# Altium schematic symbol library LIBRARY_SCH.SCHLIB: 713 symbols (part 2 of 6)
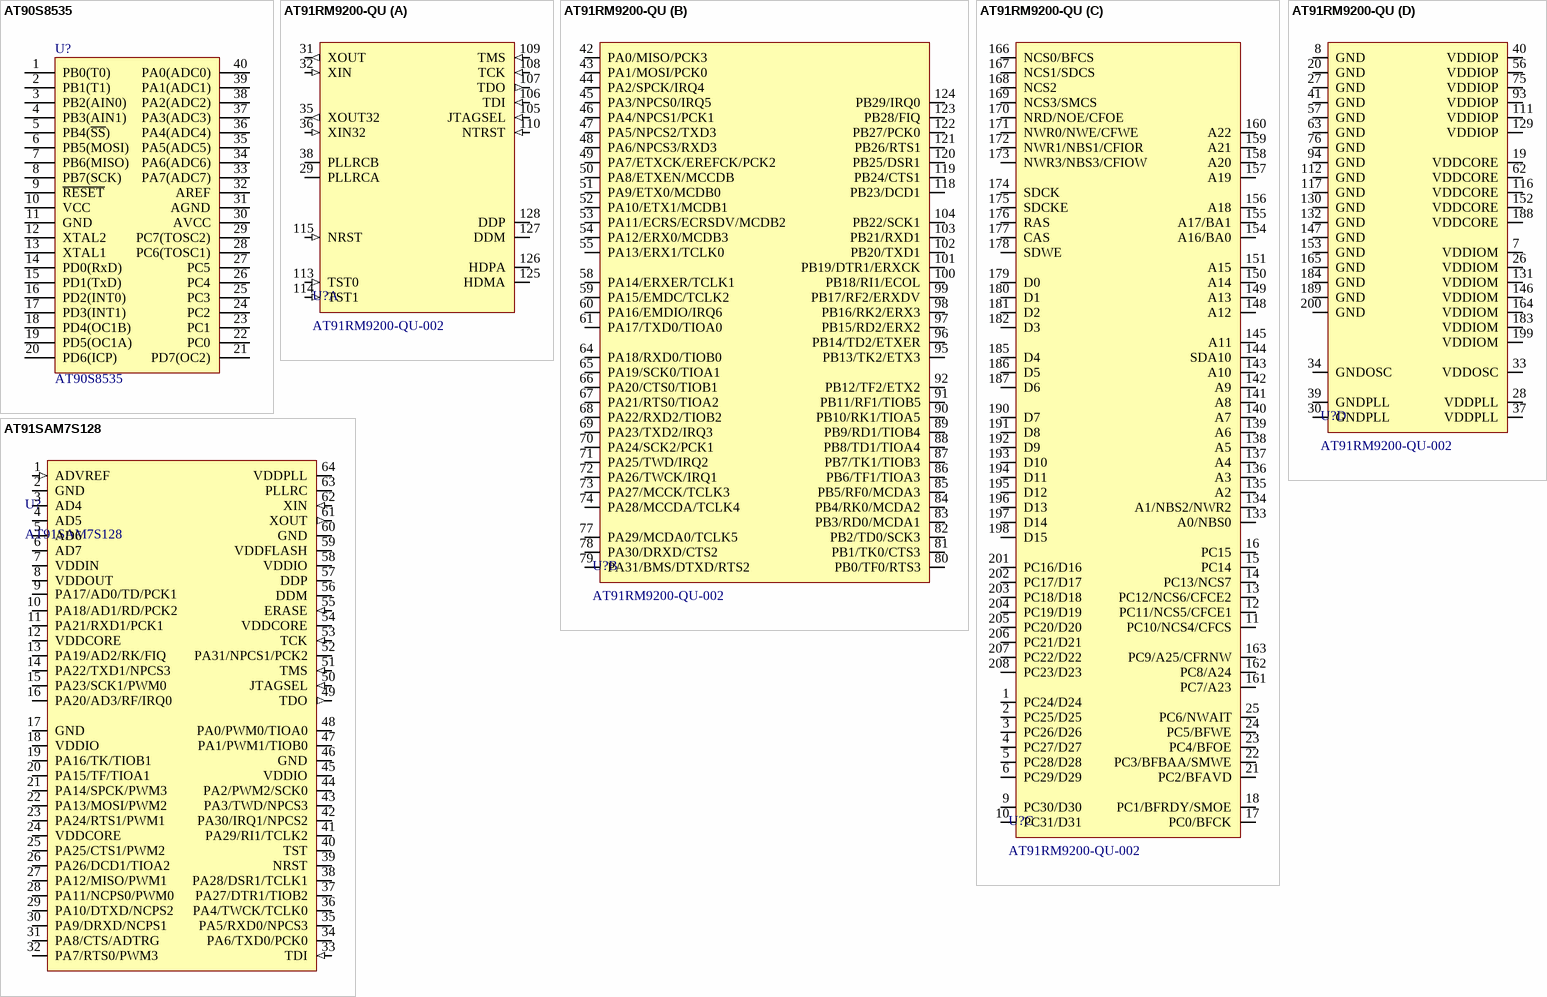
[diagram p39: symbols AT90S8535 to AT91SAM7S128]

## AT91RM9200-QU
designator U?, comment AT91RM9200-QU-002
footprint PQFP208
part A pins: 29 PLLRCA, 31 XOUT (out), 32 XIN (in), 35 XOUT32 (out), 36 XIN32 (in), 38 PLLRCB, 105 JTAGSEL (in), 106 TDI (in), 107 TDO (out), 108 TCK (in), 109 TMS (in), 110 NTRST (in), 113 TST0 (in), 114 TST1 (in), 115 NRST (in), 125 HDMA (io), 126 HDPA (io), 127 DDM (io), 128 DDP (io)
part B pins: 42 PA0/MISO/PCK3 (io), 43 PA1/MOSI/PCK0 (io), 44 PA2/SPCK/IRQ4 (io), 45 PA3/NPCS0/IRQ5 (io), 46 PA4/NPCS1/PCK1 (io), 47 PA5/NPCS2/TXD3 (io), 48 PA6/NPCS3/RXD3 (io), 49 PA7/ETXCK/EREFCK/PCK2 (io), 50 PA8/ETXEN/MCCDB (io), 51 PA9/ETX0/MCDB0 (io), 52 PA10/ETX1/MCDB1 (io), 53 PA11/ECRS/ECRSDV/MCDB2 (io), 54 PA12/ERX0/MCDB3 (io), 55 PA13/ERX1/TCLK0 (io), 58 PA14/ERXER/TCLK1 (io), 59 PA15/EMDC/TCLK2 (io), 60 PA16/EMDIO/IRQ6 (io), 61 PA17/TXD0/TIOA0 (io), 64 PA18/RXD0/TIOB0 (io), 65 PA19/SCK0/TIOA1 (io), 66 PA20/CTS0/TIOB1 (io), 67 PA21/RTS0/TIOA2 (io), 68 PA22/RXD2/TIOB2 (io), 69 PA23/TXD2/IRQ3 (io), 70 PA24/SCK2/PCK1 (io), 71 PA25/TWD/IRQ2 (io), 72 PA26/TWCK/IRQ1 (io), 73 PA27/MCCK/TCLK3 (io), 74 PA28/MCCDA/TCLK4 (io), 77 PA29/MCDA0/TCLK5 (io), 78 PA30/DRXD/CTS2 (io), 79 PA31/BMS/DTXD/RTS2 (io), 80 PB0/TF0/RTS3 (io), 81 PB1/TK0/CTS3 (io), 82 PB2/TD0/SCK3 (io), 83 PB3/RD0/MCDA1 (io), 84 PB4/RK0/MCDA2 (io), 85 PB5/RF0/MCDA3 (io), 86 PB6/TF1/TIOA3 (io), 87 PB7/TK1/TIOB3 (io), 88 PB8/TD1/TIOA4 (io), 89 PB9/RD1/TIOB4 (io), 90 PB10/RK1/TIOA5 (io), 91 PB11/RF1/TIOB5 (io), 92 PB12/TF2/ETX2 (io), 95 PB13/TK2/ETX3 (io), 96 PB14/TD2/ETXER (io), 97 PB15/RD2/ERX2 (io), 98 PB16/RK2/ERX3 (io), 99 PB17/RF2/ERXDV (io), 100 PB18/RI1/ECOL (io), 101 PB19/DTR1/ERXCK (io), 102 PB20/TXD1 (io), 103 PB21/RXD1 (io), 104 PB22/SCK1 (io), 118 PB23/DCD1 (io), 119 PB24/CTS1 (io), 120 PB25/DSR1 (io), 121 PB26/RTS1 (io), 122 PB27/PCK0 (io), 123 PB28/FIQ (io), 124 PB29/IRQ0 (io)
part C pins: 1 PC24/D24 (io), 2 PC25/D25 (io), 3 PC26/D26 (io), 4 PC27/D27 (io), 5 PC28/D28 (io), 6 PC29/D29 (io), 9 PC30/D30 (io), 10 PC31/D31 (io), 11 PC10/NCS4/CFCS (io), 12 PC11/NCS5/CFCE1 (io), 13 PC12/NCS6/CFCE2 (io), 14 PC13/NCS7 (io), 15 PC14 (io), 16 PC15 (io), 17 PC0/BFCK (io), 18 PC1/BFRDY/SMOE (io), 21 PC2/BFAVD (io), 22 PC3/BFBAA/SMWE (io), 23 PC4/BFOE (io), 24 PC5/BFWE (io), 25 PC6/NWAIT (io), 133 A0/NBS0 (io), 134 A1/NBS2/NWR2 (io), 135 A2 (io), 136 A3 (io), 137 A4 (io), 138 A5 (io), 139 A6 (io), 140 A7 (io), 141 A8 (io), 142 A9 (io), 143 A10 (io), 144 SDA10 (io), 145 A11 (io), 148 A12 (io), 149 A13 (io), 150 A14 (io), 151 A15 (io), 154 A16/BA0 (io), 155 A17/BA1 (io), 156 A18 (io), 157 A19 (io), 158 A20 (io), 159 A21 (io), 160 A22 (io), 161 PC7/A23 (io), 162 PC8/A24 (io), 163 PC9/A25/CFRNW (io), 166 NCS0/BFCS (io), 167 NCS1/SDCS (io), 168 NCS2 (io), 169 NCS3/SMCS (io), 170 NRD/NOE/CFOE (io), 171 NWR0/NWE/CFWE (io), 172 NWR1/NBS1/CFIOR (io), 173 NWR3/NBS3/CFIOW (io), 174 SDCK (io), 175 SDCKE (io), 176 RAS (io), 177 CAS (io), 178 SDWE (io), 179 D0 (io), 180 D1 (io), 181 D2 (io), 182 D3 (io), 185 D4 (io), 186 D5 (io), 187 D6 (io), 190 D7 (io), 191 D8 (io), 192 D9 (io), 193 D10 (io), 194 D11 (io), 195 D12 (io), 196 D13 (io), 197 D14 (io), 198 D15 (io), 201 PC16/D16 (io), 202 PC17/D17 (io), 203 PC18/D18 (io), 204 PC19/D19 (io), 205 PC20/D20 (io), 206 PC21/D21 (io), 207 PC22/D22 (io), 208 PC23/D23 (io)
part D pins: 7 VDDIOM (power), 8 GND (power), 19 VDDCORE (power), 20 GND (power), 26 VDDIOM (power), 27 GND (power), 28 VDDPLL (power), 30 GNDPLL (power), 33 VDDOSC (power), 34 GNDOSC (power), 37 VDDPLL (power), 39 GNDPLL (power), 40 VDDIOP (power), 41 GND (power), 56 VDDIOP (power), 57 GND (power), 62 VDDCORE (power), 63 GND (power), 75 VDDIOP (power), 76 GND (power), 93 VDDIOP (power), 94 GND (power), 111 VDDIOP (power), 112 GND (power), 116 VDDCORE (power), 117 GND (power), 129 VDDIOP (power), 130 GND (power), 131 VDDIOM (power), 132 GND (power), 146 VDDIOM (power), 147 GND (power), 152 VDDCORE (power), 153 GND (power), 164 VDDIOM (power), 165 GND (power), 183 VDDIOM (power), 184 GND (power), 188 VDDCORE (power), 189 GND (power), 199 VDDIOM (power), 200 GND (power)

## AT91SAM7S128
designator U?
Atmel ARM7TDMI processor
footprint lqfp-64
pins: 1 ADVREF (in), 2 GND (power), 3 AD4 (io), 4 AD5 (io), 5 AD6 (io), 6 AD7 (io), 7 VDDIN (power), 8 VDDOUT (power), 9 PA17/AD0/TD/PCK1 (io), 10 PA18/AD1/RD/PCK2 (io), 11 PA21/RXD1/PCK1 (io), 12 VDDCORE (power), 13 PA19/AD2/RK/FIQ (io), 14 PA22/TXD1/NPCS3 (io), 15 PA23/SCK1/PWM0 (io), 16 PA20/AD3/RF/IRQ0 (io), 17 GND (power), 18 VDDIO (power), 19 PA16/TK/TIOB1 (io), 20 PA15/TF/TIOA1 (io), 21 PA14/SPCK/PWM3 (io), 22 PA13/MOSI/PWM2 (io), 23 PA24/RTS1/PWM1 (io), 24 VDDCORE (power), 25 PA25/CTS1/PWM2 (io), 26 PA26/DCD1/TIOA2 (io), 27 PA12/MISO/PWM1 (io), 28 PA11/NCPS0/PWM0 (io), 29 PA10/DTXD/NCPS2 (io), 30 PA9/DRXD/NCPS1 (io), 31 PA8/CTS/ADTRG (io), 32 PA7/RTS0/PWM3 (io), 33 TDI (in), 34 PA6/TXD0/PCK0 (io), 35 PA5/RXD0/NPCS3 (io), 36 PA4/TWCK/TCLK0 (io), 37 PA27/DTR1/TIOB2 (io), 38 PA28/DSR1/TCLK1 (io), 39 NRST (oc), 40 TST (power), 41 PA29/RI1/TCLK2 (io), 42 PA30/IRQ1/NPCS2 (io), 43 PA3/TWD/NPCS3 (io), 44 PA2/PWM2/SCK0 (io), 45 VDDIO (power), 46 GND (power), 47 PA1/PWM1/TIOB0 (io), 48 PA0/PWM0/TIOA0 (io), 49 TDO (out), 50 JTAGSEL (in), 51 TMS (in), 52 PA31/NPCS1/PCK2 (io), 53 TCK (in), 54 VDDCORE (power), 55 ERASE (in), 56 DDM (io), 57 DDP (io), 58 VDDIO (power), 59 VDDFLASH (power), 60 GND (power), 61 XOUT (out), 62 XIN (in), 63 PLLRC (power), 64 VDDPLL (power)

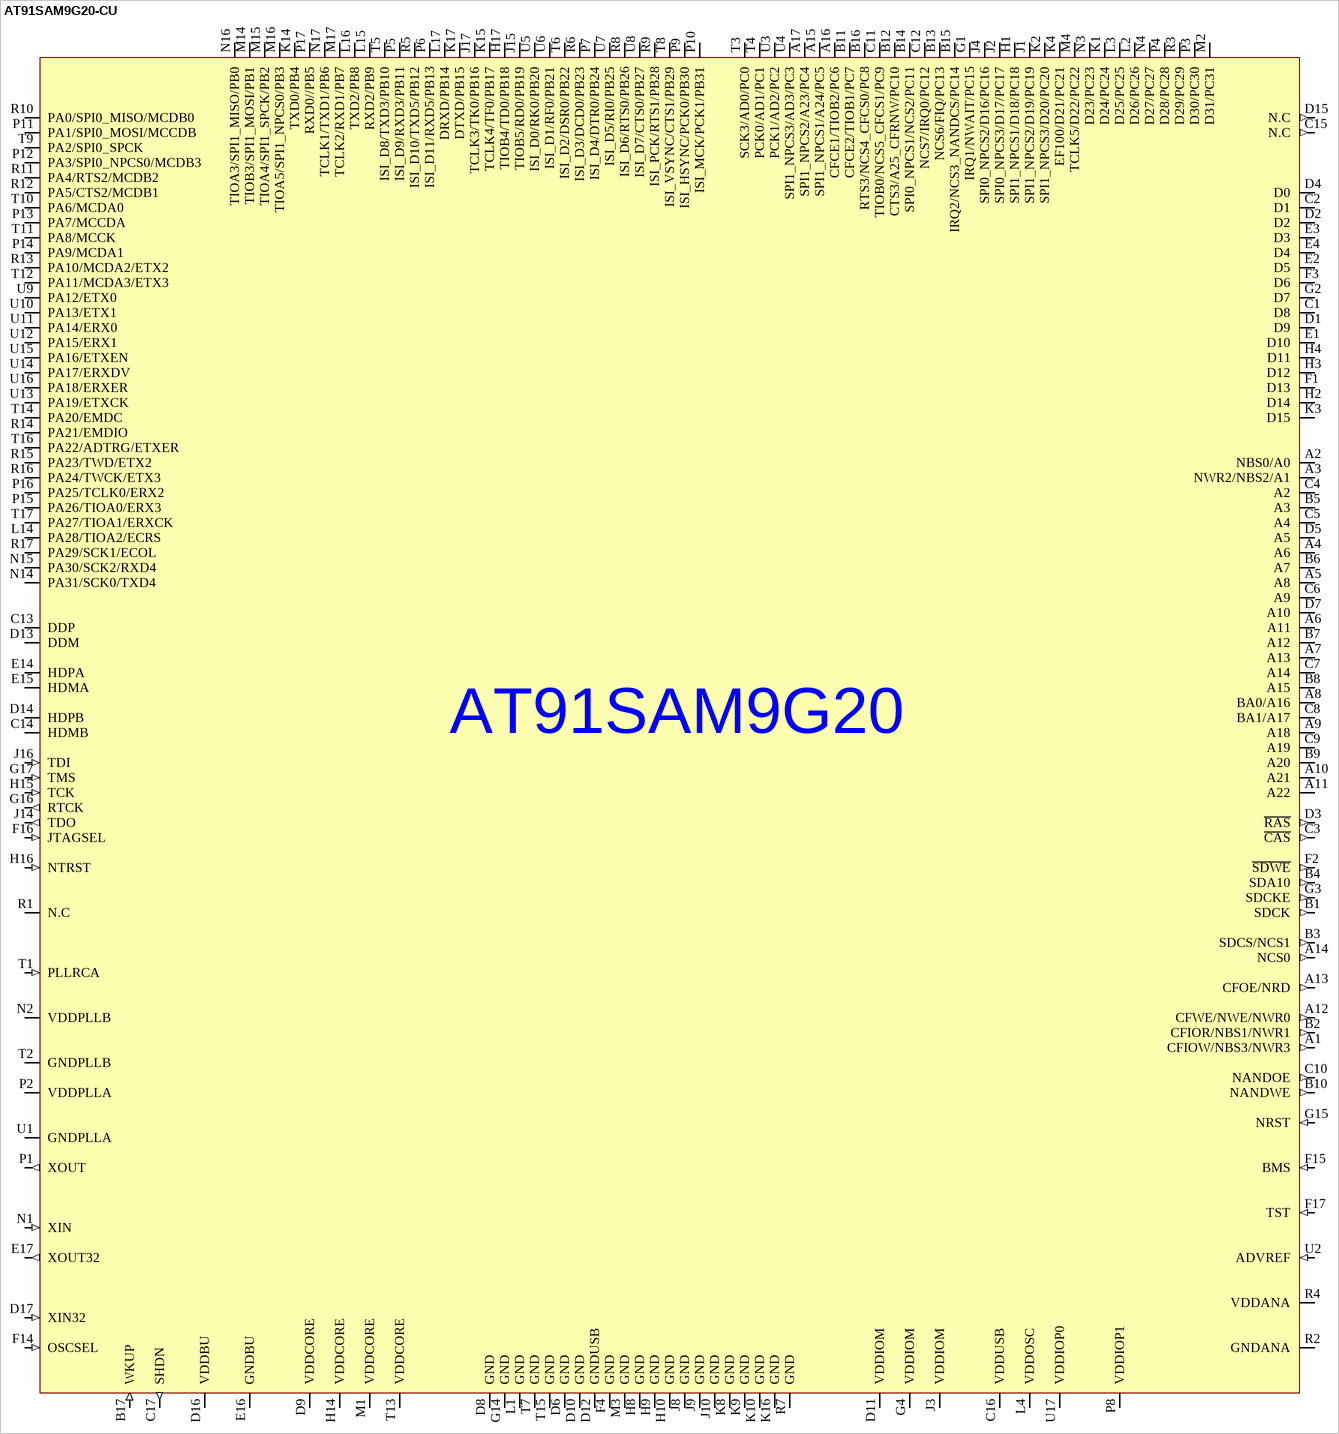
[diagram p8: symbol AT91SAM9G20-CU]

## AT91SAM9G20-CU
designator MN4  (value not drawn)
FAB: ATMEL; TEMP: -40°C à +85°C; BOI: LFBGA217 Pitch 0.8mm with BGA socket; DESIG: NADIA0; REF: AT91SAM9260-CJ; VAL: AT91SAM9260; DEV: X_S_BGA289_01; Right: 830; Bottom: 880
footprint FBGA217
pins: A1 CFIOW/NBS3/NWR3 (out), A2 NBS0/A0 (hiz), A3 NWR2/NBS2/A1 (hiz), A4 A6 (hiz), A5 A8 (hiz), A6 A11 (hiz), A7 A13 (hiz), A8 BA0/A16 (hiz), A9 A18 (hiz), A10 A21 (hiz), A11 A22 (hiz), A12 CFWE/NWE/NWR0 (out), A13 CFOE/NRD (out), A14 NCS0 (out), A15 SPI1_NPCS1/A24/PC5 (io), A16 CFCE1/TIOB2/PC6 (io), A17 SPI1_NPCS2/A23/PC4 (io), B1 SDCK (out), B2 CFIOR/NBS1/NWR1 (out), B3 SDCS/NCS1 (out), B4 SDA10 (out), B5 A3 (hiz), B6 A7 (hiz), B7 A12 (hiz), B8 A15 (hiz), B9 A20 (hiz), B10 NANDWE (out), B11 CFCE2/TIOB1/PC7 (io), B12 CTS3/A25_CFRNW/PC10 (io), B13 NCS6/FIQ/PC13 (io), B14 SPI0_NPCS1/NCS2/PC11 (io), B15 IRQ2/NCS3_NANDCS/PC14 (io), B16 RTS3/NCS4_CFCS0/PC8 (io), B17 WKUP (in), C1 D8 (io), C2 D1 (io), C3 ~{CAS} (out), C4 A2 (hiz), C5 A4 (hiz), C6 A9 (hiz), C7 A14 (hiz), C8 BA1/A17 (hiz), C9 A19 (hiz), C10 NANDOE (out), C11 TIOB0/NCS5_CFCS1/PC9 (io), C12 NCS7/IRQ0/PC12 (io), C13 DDP, C14 HDMB, C15 N.C (out), C16 VDDUSB (power), C17 SHDN (out), D1 D9 (io), D2 (io), D3 ~{RAS} (out), D4 D0 (io), D5 A5 (hiz), D6 GND (power), D7 A10 (hiz), D8 GND (power), D9 VDDCORE (power), D10 GND (power), D11 VDDIOM (power), D12 GNDUSB (power), D13 DDM, D14 HDPB, D15 N.C (out), D16 VDDBU (power), D17 XIN32 (in), E1 D10 (io), E2 D5 (io), E3 D3 (io), E4 D4 (io), E14 HDPA, E15 HDMA, E16 GNDBU (power), E17 XOUT32 (out), F1 D13 (io), F2 ~{SDWE} (out), F3 D6 (io), F4 GND (power), F14 OSCSEL (in), F15 BMS (in), F16 JTAGSEL (in), F17 TST (in), G1 IRQ1/NWAIT/PC15 (io), G2 D7 (io), G3 SDCKE (out), G4 VDDIOM (power), G14 GND (power), G15 NRST (in), G16 RTCK (out), G17 TMS (in), H1 SPI1_NPCS1/D18/PC18 (io), H2 D14 (io), H3 D12 (io), H4 D11 (io), H8 GND (power), H9 GND (power), H10 GND (power), H14 VDDCORE (power), H15 TCK (in), H16 NTRST (in), H17 TIOB4/TD0/PB18 (io), J1 SPI1_NPCS2/D19/PC19 (io), J2 SPI0_NPCS3/D17/PC17 (io), J3 VDDIOM (power), J4 SPI0_NPCS2/D16/PC16 (io), J8 GND (power), J9 GND (power), J10 GND (power), J14 TDO (out), J15 TIOB5/RD0/PB19 (io), J16 TDI (in), J17 TCLK3/TK0/PB16 (io), K1 D24/PC24 (io), K2 SPI1_NPCS3/D20/PC20 (io), K3 D15 (io), K4 EF100/D21/PC21 (io), K8 GND (power), K9 GND (power), K10 GND (power), K14 TXD0/PB4 (io), K15 TCLK4/TF0/PB17 (io), K16 GND (power), K17 DTXD/PB15 (io), L1 GND (power), L2 D26/PC26 (io), L3 D25/PC25 (io), L4 VDDOSC (power), L14 PA28/TIOA2/ECRS (io), L15 RXD2/PB9 (io), L16 TXD2/PB8 (io), L17 DRXD/PB14 (io), M1 VDDCORE (power), M2 D31/PC31 (io), M3 GND (power), M4 TCLK5/D22/PC22 (io), M14 TIOB3/SPI1_MOSI/PB1 (io), M15 TIOA4/SPI1_SPCK/PB2 (io), M16 TIOA5/SPI1_NPCS0/PB3 (io), M17 TCLK2/RXD1/PB7 (io), N1 XIN (in), N2 VDDPLLB (power), N3 D23/PC23 (io), N4 D27/PC27 (io), N14 PA31/SCK0/TXD4 (io), N15 PA30/SCK2/RXD4 (io), N16 TIOA3/SPI1_MISO/PB0 (io), N17 TCLK1/TXD1/PB6 (io), P1 XOUT (out), P2 VDDPLLA (power), P3 D30/PC30 (io), P4 D28/PC28 (io), P5 ISI_D9/RXD3/PB11 (io), P6 ISI_D11/RXD5/PB13 (io), P7 ISI_D4/DTR0/PB24 (io), P8 VDDIOP1 (power), P9 ISI_HSYNC/PCK0/PB30 (io), P10 ISI_MCK/PCK1/PB31 (io), P11 PA1/SPI0_MOSI/MCCDB (io), P12 PA3/SPI0_NPCS0/MCDB3 (io), P13 PA7/MCCDA (io), P14 PA9/MCDA1 (io), P15 PA26/TIOA0/ERX3 (io), P16 PA25/TCLK0/ERX2 (io), P17 RXD0//PB5 (io), R1 N.C, R2 GNDANA (power), R3 D29/PC29 (io), R4 VDDANA (power), R5 ISI_D10/TXD5/PB12 (io), R6 ISI_D3/DCD0/PB23 (io), R7 GND (power), R8 ISI_D6/RTS0/PB26 (io), R9 ISI_PCK/RTS1/PB28 (io), R10 PA0/SPI0_MISO/MCDB0 (io), R11 PA4/RTS2/MCDB2 (io), R12 PA5/CTS2/MCDB1 (io), R13 PA10/MCDA2/ETX2 (io), R14 PA21/EMDIO (io), R15 PA23/TWD/ETX2 (io), R16 PA24/TWCK/ETX3 (io), R17 PA29/SCK1/ECOL (io), T1 PLLRCA (in), T2 GNDPLLB (power), T3 SCK3/AD0/PC0 (io), T4 PCK0/AD1/PC1 (io), T5 ISI_D8/TXD3/PB10 (io), T6 ISI_D2/DSR0/PB22 (io), T7 GND (power), T8 ISI_VSYNC/CTS1/PB29 (io), T9 PA2/SPI0_SPCK (io), T10 PA6/MCDA0 (io), T11 PA8/MCCK (io), T12 PA11/MCDA3/ETX3 (io), T13 VDDCORE (power), T14 PA20/EMDC (io), T15 GND (power), T16 PA22/ADTRG/ETXER (io), T17 PA27/TIOA1/ERXCK (io), U1 GNDPLLA (power), U2 ADVREF (in), U3 PCK1/AD2/PC2 (io), U4 SPI1_NPCS3/AD3/PC3 (io), U5 ISI_D0/RK0/PB20 (io), U6 ISI_D1/RF0/PB21 (io), U7 ISI_D5/RI0/PB25 (io), U8 ISI_D7/CTS0/PB27 (io), U9 PA12/ETX0 (io), U10 PA13/ETX1 (io), U11 PA14/ERX0 (io), U12 PA15/ERX1 (io), U13 PA19/ETXCK (io), U14 PA17/ERXDV (io), U15 PA16/ETXEN (io), U16 PA18/ERXER (io), U17 VDDIOP0 (power)
text: AT91SAM9G20

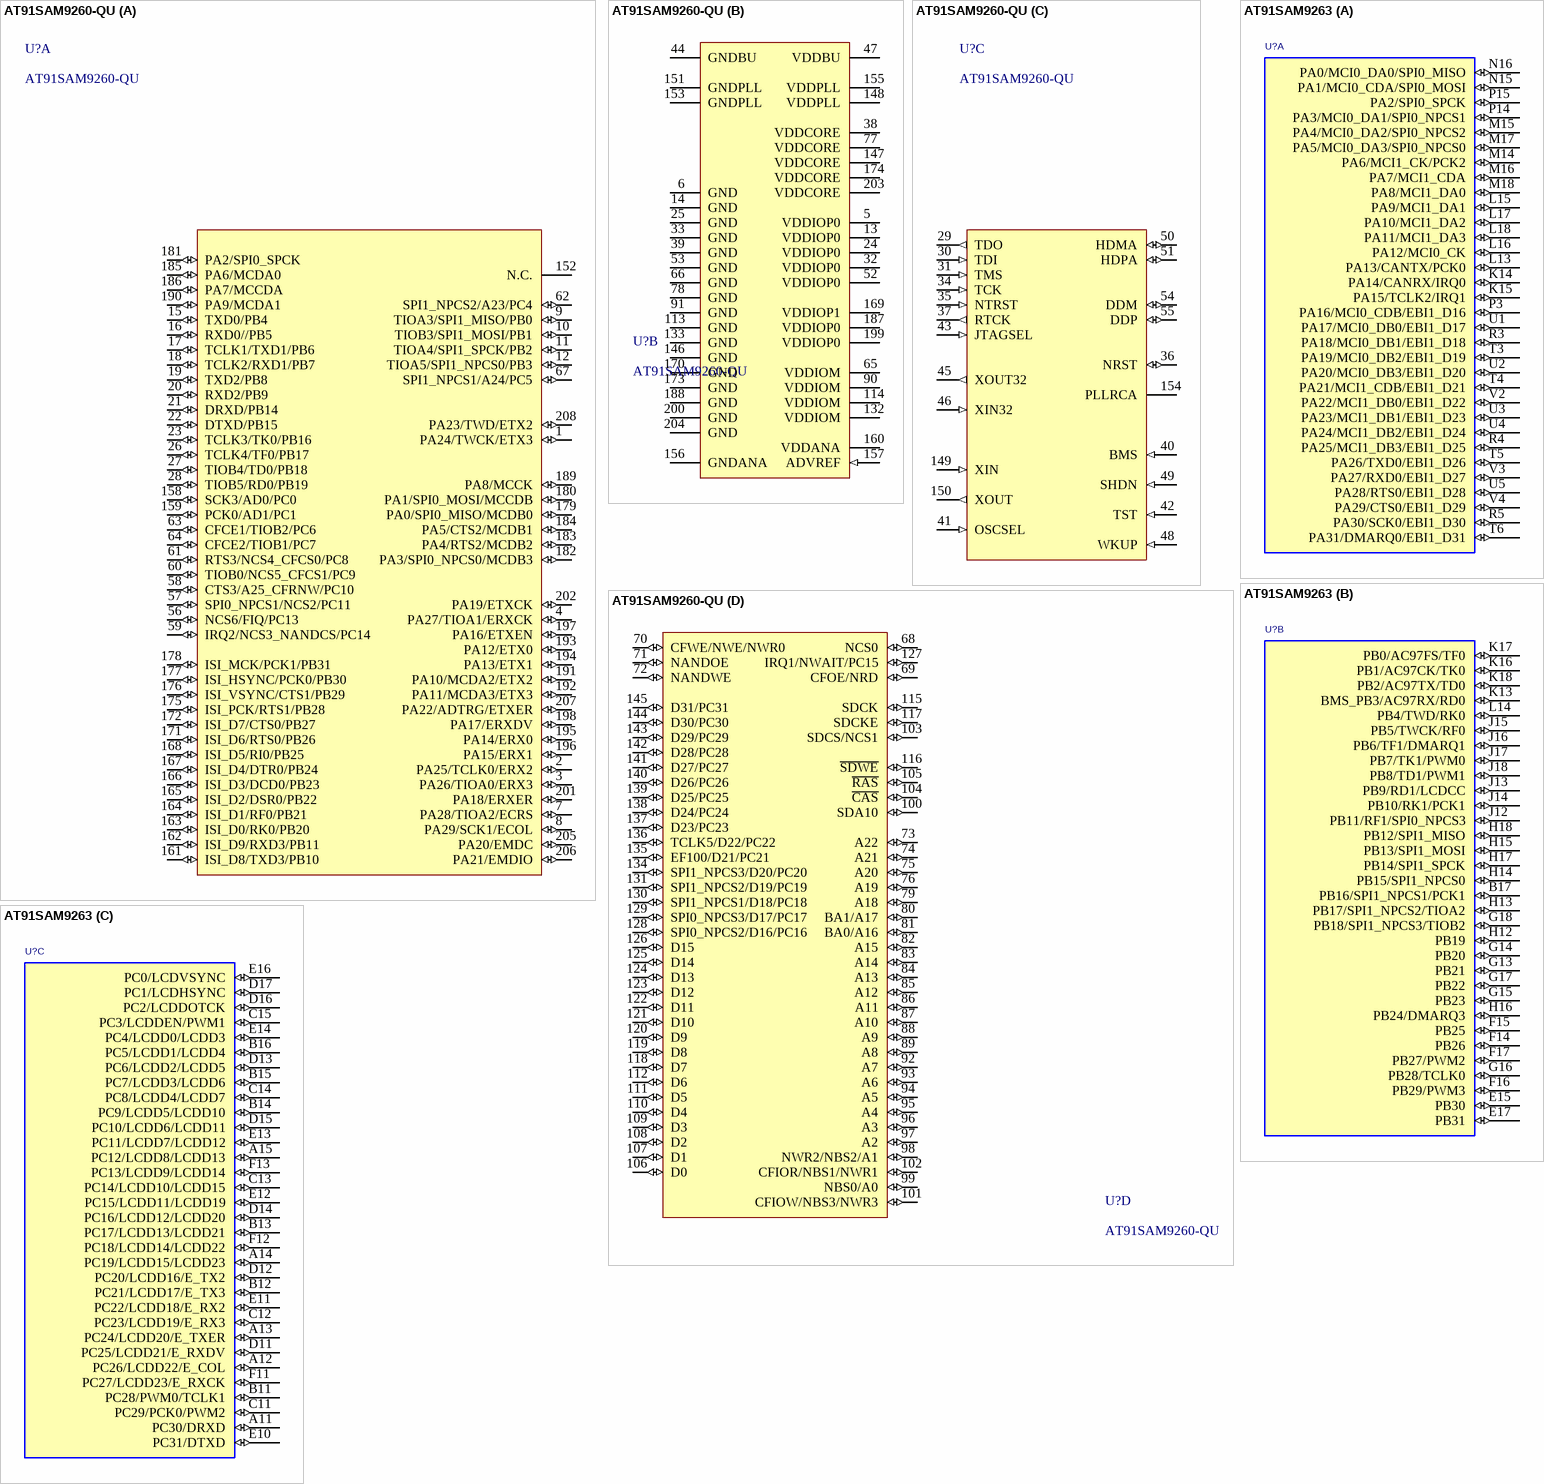
[diagram p9: symbols AT91SAM9260-QU to AT91SAM9263]

## AT91SAM9260-QU
designator U?
footprint PQFP208
part A pins: 1 PA24/TWCK/ETX3 (io), 2 PA25/TCLK0/ERX2 (io), 3 PA26/TIOA0/ERX3 (io), 4 PA27/TIOA1/ERXCK (io), 7 PA28/TIOA2/ECRS (io), 8 PA29/SCK1/ECOL (io), 9 TIOA3/SPI1_MISO/PB0 (io), 10 TIOB3/SPI1_MOSI/PB1 (io), 11 TIOA4/SPI1_SPCK/PB2 (io), 12 TIOA5/SPI1_NPCS0/PB3 (io), 15 TXD0/PB4 (io), 16 RXD0//PB5 (io), 17 TCLK1/TXD1/PB6 (io), 18 TCLK2/RXD1/PB7 (io), 19 TXD2/PB8 (io), 20 RXD2/PB9 (io), 21 DRXD/PB14 (io), 22 DTXD/PB15 (io), 23 TCLK3/TK0/PB16 (io), 26 TCLK4/TF0/PB17 (io), 27 TIOB4/TD0/PB18 (io), 28 TIOB5/RD0/PB19 (io), 56 NCS6/FIQ/PC13 (io), 57 SPI0_NPCS1/NCS2/PC11 (io), 58 CTS3/A25_CFRNW/PC10 (io), 59 IRQ2/NCS3_NANDCS/PC14 (io), 60 TIOB0/NCS5_CFCS1/PC9 (io), 61 RTS3/NCS4_CFCS0/PC8 (io), 62 SPI1_NPCS2/A23/PC4 (io), 63 CFCE1/TIOB2/PC6 (io), 64 CFCE2/TIOB1/PC7 (io), 67 SPI1_NPCS1/A24/PC5 (io), 152 N.C., 158 SCK3/AD0/PC0 (io), 159 PCK0/AD1/PC1 (io), 161 ISI_D8/TXD3/PB10 (io), 162 ISI_D9/RXD3/PB11 (io), 163 ISI_D0/RK0/PB20 (io), 164 ISI_D1/RF0/PB21 (io), 165 ISI_D2/DSR0/PB22 (io), 166 ISI_D3/DCD0/PB23 (io), 167 ISI_D4/DTR0/PB24 (io), 168 ISI_D5/RI0/PB25 (io), 171 ISI_D6/RTS0/PB26 (io), 172 ISI_D7/CTS0/PB27 (io), 175 ISI_PCK/RTS1/PB28 (io), 176 ISI_VSYNC/CTS1/PB29 (io), 177 ISI_HSYNC/PCK0/PB30 (io), 178 ISI_MCK/PCK1/PB31 (io), 179 PA0/SPI0_MISO/MCDB0 (io), 180 PA1/SPI0_MOSI/MCCDB (io), 181 PA2/SPI0_SPCK (io), 182 PA3/SPI0_NPCS0/MCDB3 (io), 183 PA4/RTS2/MCDB2 (io), 184 PA5/CTS2/MCDB1 (io), 185 PA6/MCDA0 (io), 186 PA7/MCCDA (io), 189 PA8/MCCK (io), 190 PA9/MCDA1 (io), 191 PA10/MCDA2/ETX2 (io), 192 PA11/MCDA3/ETX3 (io), 193 PA12/ETX0 (io), 194 PA13/ETX1 (io), 195 PA14/ERX0 (io), 196 PA15/ERX1 (io), 197 PA16/ETXEN (io), 198 PA17/ERXDV (io), 201 PA18/ERXER (io), 202 PA19/ETXCK (io), 205 PA20/EMDC (io), 206 PA21/EMDIO (io), 207 PA22/ADTRG/ETXER (io), 208 PA23/TWD/ETX2 (io)
part B pins: 5 VDDIOP0 (power), 6 GND (power), 13 VDDIOP0 (power), 14 GND (power), 24 VDDIOP0 (power), 25 GND (power), 32 VDDIOP0 (power), 33 GND (power), 38 VDDCORE (power), 39 GND (power), 44 GNDBU (power), 47 VDDBU (power), 52 VDDIOP0 (power), 53 GND (power), 65 VDDIOM (power), 66 GND (power), 77 VDDCORE (power), 78 GND (power), 90 VDDIOM (power), 91 GND (power), 113 GND (power), 114 VDDIOM (power), 132 VDDIOM (power), 133 GND (power), 146 GND (power), 147 VDDCORE (power), 148 VDDPLL (power), 151 GNDPLL (power), 153 GNDPLL (power), 155 VDDPLL (power), 156 GNDANA (power), 157 ADVREF (in), 160 VDDANA (power), 169 VDDIOP1 (power), 170 GND (power), 173 GND (power), 174 VDDCORE (power), 187 VDDIOP0 (power), 188 GND (power), 199 VDDIOP0 (power), 200 GND (power), 203 VDDCORE (power), 204 GND (power)
part C pins: 29 TDO (out), 30 TDI (in), 31 TMS (in), 34 TCK (in), 35 NTRST (in), 36 NRST (io), 37 RTCK (out), 40 BMS (in), 41 OSCSEL (in), 42 TST (in), 43 JTAGSEL (in), 45 XOUT32 (out), 46 XIN32 (in), 48 WKUP (in), 49 SHDN (in), 50 HDMA (io), 51 HDPA (io), 54 DDM (io), 55 DDP (io), 149 XIN (in), 150 XOUT (out), 154 PLLRCA
part D pins: 68 NCS0 (io), 69 CFOE/NRD (io), 70 CFWE/NWE/NWR0 (io), 71 NANDOE (io), 72 NANDWE (io), 73 A22 (io), 74 A21 (io), 75 A20 (io), 76 A19 (io), 79 A18 (io), 80 BA1/A17 (io), 81 BA0/A16 (io), 82 A15 (io), 83 A14 (io), 84 A13 (io), 85 A12 (io), 86 A11 (io), 87 A10 (io), 88 A9 (io), 89 A8 (io), 92 A7 (io), 93 A6 (io), 94 A5 (io), 95 A4 (io), 96 A3 (io), 97 A2 (io), 98 NWR2/NBS2/A1 (io), 99 NBS0/A0 (io), 100 SDA10 (io), 101 CFIOW/NBS3/NWR3 (io), 102 CFIOR/NBS1/NWR1 (io), 103 SDCS/NCS1 (io), 104 ~{CAS} (io), 105 ~{RAS} (io), 106 D0 (io), 107 D1 (io), 108 D2 (io), 109 D3 (io), 110 D4 (io), 111 D5 (io), 112 D6 (io), 115 SDCK (io), 116 ~{SDWE} (io), 117 SDCKE (io), 118 D7 (io), 119 D8 (io), 120 D9 (io), 121 D10 (io), 122 D11 (io), 123 D12 (io), 124 D13 (io), 125 D14 (io), 126 D15 (io), 127 IRQ1/NWAIT/PC15 (io), 128 SPI0_NPCS2/D16/PC16 (io), 129 SPI0_NPCS3/D17/PC17 (io), 130 SPI1_NPCS1/D18/PC18 (io), 131 SPI1_NPCS2/D19/PC19 (io), 134 SPI1_NPCS3/D20/PC20 (io), 135 EF100/D21/PC21 (io), 136 TCLK5/D22/PC22 (io), 137 D23/PC23 (io), 138 D24/PC24 (io), 139 D25/PC25 (io), 140 D26/PC26 (io), 141 D27/PC27 (io), 142 D28/PC28 (io), 143 D29/PC29 (io), 144 D30/PC30 (io), 145 D31/PC31 (io)

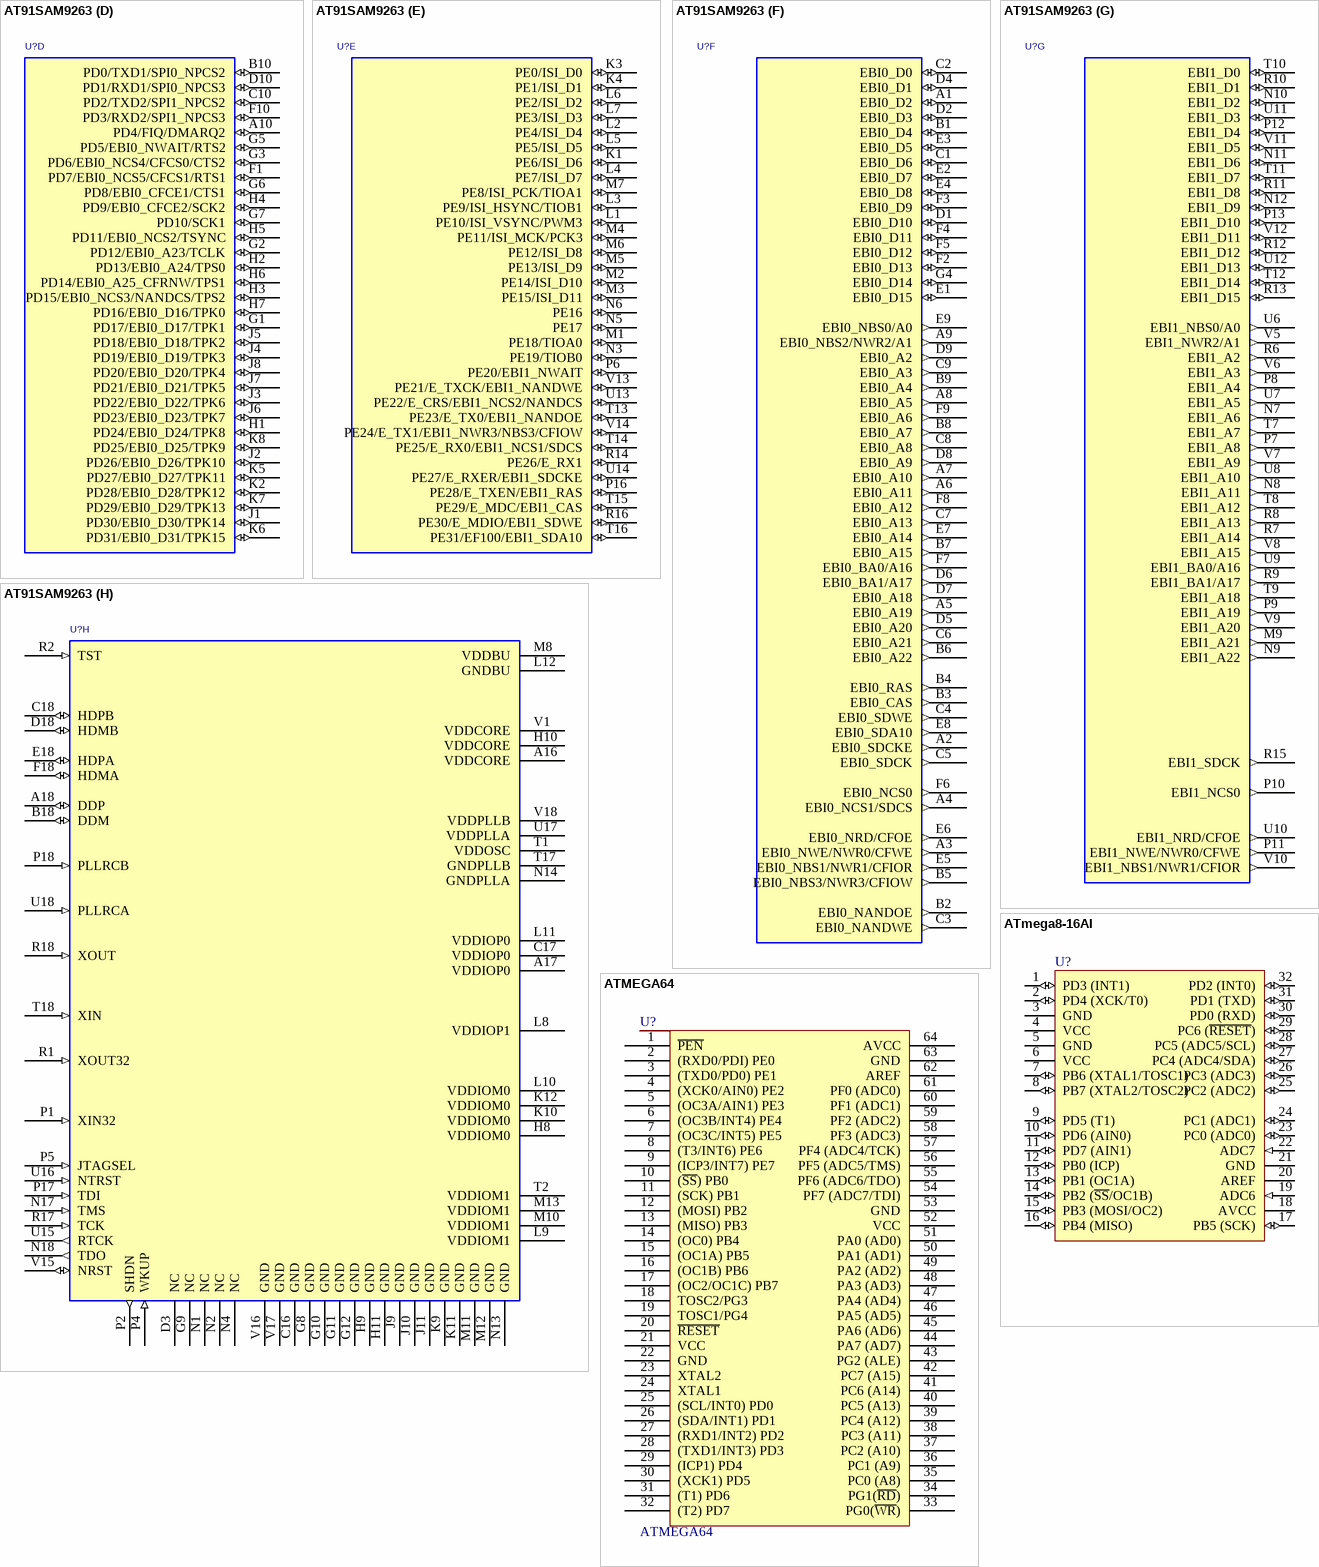
[diagram p10: symbols AT91SAM9263 to ATMEGA64]

## AT91SAM9263
designator U?, comment AT91SAM9263-CU  (value not drawn)
MANUFACTURER: ATMEL; DEV: x-s_bga324p0-8_01; SPLIT_INST: TRUE; SWAP_INFO: (S1+S2+S3+S4+S5+S6+S7+S8); TOLERANCE: !; NO_EQU: False; NC: N1; Right: 140; Bottom: 330; Right4: 170; Right5: 150; Bottom5: 590; Right7: 300; Bottom7: 440; VOLTAGE_MAX: !; DATE_COMP: 2005/06/09; REF: AT91SAM9263; NO_SWAP_GATE: False; PACKAGE: R-LFBGA400; NO_SWAP_GATE_EXT: False; NO_SWAP_PIN: False; Right1: 140; Bottom1: 330; Right2: 140; Bottom2: 330; Right3: 140; Bottom3: 330; Bottom4: 330; Right6: 150; Bottom6: 590
footprint TFBGA324
part A pins: K14 PA14/CANRX/IRQ0 (io), K15 PA15/TCLK2/IRQ1 (io), L13 PA13/CANTX/PCK0 (io), L15 PA9/MCI1_DA1 (io), L16 PA12/MCI0_CK (io), L17 PA10/MCI1_DA2 (io), L18 PA11/MCI1_DA3 (io), M14 PA6/MCI1_CK/PCK2 (io), M15 PA4/MCI0_DA2/SPI0_NPCS2 (io), M16 PA7/MCI1_CDA (io), M17 PA5/MCI0_DA3/SPI0_NPCS0 (io), M18 PA8/MCI1_DA0 (io), N15 PA1/MCI0_CDA/SPI0_MOSI (io), N16 PA0/MCI0_DA0/SPI0_MISO (io), P3 PA16/MCI0_CDB/EBI1_D16 (io), P14 PA3/MCI0_DA1/SPI0_NPCS1 (io), P15 PA2/SPI0_SPCK (io), R3 PA18/MCI0_DB1/EBI1_D18 (io), R4 PA25/MCI1_DB3/EBI1_D25 (io), R5 PA30/SCK0/EBI1_D30 (io), T3 PA19/MCI0_DB2/EBI1_D19 (io), T4 PA21/MCI1_CDB/EBI1_D21 (io), T5 PA26/TXD0/EBI1_D26 (io), T6 PA31/DMARQ0/EBI1_D31 (io), U1 PA17/MCI0_DB0/EBI1_D17 (io), U2 PA20/MCI0_DB3/EBI1_D20 (io), U3 PA23/MCI1_DB1/EBI1_D23 (io), U4 PA24/MCI1_DB2/EBI1_D24 (io), U5 PA28/RTS0/EBI1_D28 (io), V2 PA22/MCI1_DB0/EBI1_D22 (io), V3 PA27/RXD0/EBI1_D27 (io), V4 PA29/CTS0/EBI1_D29 (io)
part B pins: B17 PB16/SPI1_NPCS1/PCK1 (io), E15 PB30 (io), E17 PB31 (io), F14 PB26 (io), F15 PB25 (io), F16 PB29/PWM3 (io), F17 PB27/PWM2 (io), G13 PB21 (io), G14 PB20 (io), G15 PB23 (io), G16 PB28/TCLK0 (io), G17 PB22 (io), G18 PB18/SPI1_NPCS3/TIOB2 (io), H12 PB19 (io), H13 PB17/SPI1_NPCS2/TIOA2 (io), H14 PB15/SPI1_NPCS0 (io), H15 PB13/SPI1_MOSI (io), H16 PB24/DMARQ3 (io), H17 PB14/SPI1_SPCK (io), H18 PB12/SPI1_MISO (io), J12 PB11/RF1/SPI0_NPCS3 (io), J13 PB9/RD1/LCDCC (io), J14 PB10/RK1/PCK1 (io), J15 PB5/TWCK/RF0 (io), J16 PB6/TF1/DMARQ1 (io), J17 PB7/TK1/PWM0 (io), J18 PB8/TD1/PWM1 (io), K13 BMS_PB3/AC97RX/RD0 (io), K16 PB1/AC97CK/TK0 (io), K17 PB0/AC97FS/TF0 (io), K18 PB2/AC97TX/TD0 (io), L14 PB4/TWD/RK0 (io)
part C pins: A11 PC30/DRXD (io), A12 PC26/LCDD22/E_COL (io), A13 PC24/LCDD20/E_TXER (io), A14 PC19/LCDD15/LCDD23 (io), A15 PC12/LCDD8/LCDD13 (io), B11 PC28/PWM0/TCLK1 (io), B12 PC21/LCDD17/E_TX3 (io), B13 PC17/LCDD13/LCDD21 (io), B14 PC9/LCDD5/LCDD10 (io), B15 PC7/LCDD3/LCDD6 (io), B16 PC5/LCDD1/LCDD4 (io), C11 PC29/PCK0/PWM2 (io), C12 PC23/LCDD19/E_RX3 (io), C13 PC14/LCDD10/LCDD15 (io), C14 PC8/LCDD4/LCDD7 (io), C15 PC3/LCDDEN/PWM1 (io), D11 PC25/LCDD21/E_RXDV (io), D12 PC20/LCDD16/E_TX2 (io), D13 PC6/LCDD2/LCDD5 (io), D14 PC16/LCDD12/LCDD20 (io), D15 PC10/LCDD6/LCDD11 (io), D16 PC2/LCDDOTCK (io), D17 PC1/LCDHSYNC (io), E10 PC31/DTXD (io), E11 PC22/LCDD18/E_RX2 (io), E12 PC15/LCDD11/LCDD19 (io), E13 PC11/LCDD7/LCDD12 (io), E14 PC4/LCDD0/LCDD3 (io), E16 PC0/LCDVSYNC (io), F11 PC27/LCDD23/E_RXCK (io), F12 PC18/LCDD14/LCDD22 (io), F13 PC13/LCDD9/LCDD14 (io)
part D pins: A10 PD4/FIQ/DMARQ2 (io), B10 PD0/TXD1/SPI0_NPCS2 (io), C10 PD2/TXD2/SPI1_NPCS2 (io), D10 PD1/RXD1/SPI0_NPCS3 (io), F1 PD7/EBI0_NCS5/CFCS1/RTS1 (io), F10 PD3/RXD2/SPI1_NPCS3 (io), G1 PD17/EBI0_D17/TPK1 (io), G2 PD12/EBI0_A23/TCLK (io), G3 PD6/EBI0_NCS4/CFCS0/CTS2 (io), G5 PD5/EBI0_NWAIT/RTS2 (io), G6 PD8/EBI0_CFCE1/CTS1 (io), G7 PD10/SCK1 (io), H1 PD24/EBI0_D24/TPK8 (io), H2 PD13/EBI0_A24/TPS0 (io), H3 PD15/EBI0_NCS3/NANDCS/TPS2 (io), H4 PD9/EBI0_CFCE2/SCK2 (io), H5 PD11/EBI0_NCS2/TSYNC (io), H6 PD14/EBI0_A25_CFRNW/TPS1 (io), H7 PD16/EBI0_D16/TPK0 (io), J1 PD30/EBI0_D30/TPK14 (io), J2 PD26/EBI0_D26/TPK10 (io), J3 PD22/EBI0_D22/TPK6 (io), J4 PD19/EBI0_D19/TPK3 (io), J5 PD18/EBI0_D18/TPK2 (io), J6 PD23/EBI0_D23/TPK7 (io), J7 PD21/EBI0_D21/TPK5 (io), J8 PD20/EBI0_D20/TPK4 (io), K2 PD28/EBI0_D28/TPK12 (io), K5 PD27/EBI0_D27/TPK11 (io), K6 PD31/EBI0_D31/TPK15 (io), K7 PD29/EBI0_D29/TPK13 (io), K8 PD25/EBI0_D25/TPK9 (io)
part E pins: K1 PE6/ISI_D6 (io), K3 PE0/ISI_D0 (io), K4 PE1/ISI_D1 (io), L1 PE10/ISI_VSYNC/PWM3 (io), L2 PE4/ISI_D4 (io), L3 PE9/ISI_HSYNC/TIOB1 (io), L4 PE7/ISI_D7 (io), L5 PE5/ISI_D5 (io), L6 PE2/ISI_D2 (io), L7 PE3/ISI_D3 (io), M1 PE18/TIOA0 (io), M2 PE14/ISI_D10 (io), M3 PE15/ISI_D11 (io), M4 PE11/ISI_MCK/PCK3 (io), M5 PE13/ISI_D9 (io), M6 PE12/ISI_D8 (io), M7 PE8/ISI_PCK/TIOA1 (io), N3 PE19/TIOB0 (io), N5 PE17 (io), N6 PE16 (io), P6 PE20/EBI1_NWAIT (io), P16 PE28/E_TXEN/EBI1_RAS (io), R14 PE26/E_RX1 (io), R16 PE30/E_MDIO/EBI1_SDWE (io), T13 PE23/E_TX0/EBI1_NANDOE (io), T14 PE25/E_RX0/EBI1_NCS1/SDCS (io), T15 PE29/E_MDC/EBI1_CAS (io), T16 PE31/EF100/EBI1_SDA10 (io), U13 PE22/E_CRS/EBI1_NCS2/NANDCS (io), U14 PE27/E_RXER/EBI1_SDCKE (io), V13 PE21/E_TXCK/EBI1_NANDWE (io), V14 PE24/E_TX1/EBI1_NWR3/NBS3/CFIOW (io)
part F pins: A1 EBI0_D2 (io), A2 EBI0_SDCKE (out), A3 EBI0_NWE/NWR0/CFWE (out), A4 EBI0_NCS1/SDCS (out), A5 EBI0_A19 (out), A6 EBI0_A11 (out), A7 EBI0_A10 (out), A8 EBI0_A5 (out), A9 EBI0_NBS2/NWR2/A1 (out), B1 EBI0_D4 (io), B2 EBI0_NANDOE (out), B3 EBI0_CAS (out), B4 EBI0_RAS (out), B5 EBI0_NBS3/NWR3/CFIOW (out), B6 EBI0_A22 (out), B7 EBI0_A15 (out), B8 EBI0_A7 (out), B9 EBI0_A4 (out), C1 EBI0_D6 (io), C2 EBI0_D0 (io), C3 EBI0_NANDWE (out), C4 EBI0_SDWE (out), C5 EBI0_SDCK (out), C6 EBI0_A21 (out), C7 EBI0_A13 (out), C8 EBI0_A8 (out), C9 EBI0_A3 (out), D1 EBI0_D10 (io), D2 EBI0_D3 (io), D4 EBI0_D1 (io), D5 EBI0_A20 (out), D6 EBI0_BA1/A17 (out), D7 EBI0_A18 (out), D8 EBI0_A9 (out), D9 EBI0_A2 (out), E1 EBI0_D15 (io), E2 EBI0_D7 (io), E3 EBI0_D5 (io), E4 EBI0_D8 (io), E5 EBI0_NBS1/NWR1/CFIOR (out), E6 EBI0_NRD/CFOE (out), E7 EBI0_A14 (out), E8 EBI0_SDA10 (out), E9 EBI0_NBS0/A0 (out), F2 EBI0_D13 (io), F3 EBI0_D9 (io), F4 EBI0_D11 (io), F5 EBI0_D12 (io), F6 EBI0_NCS0 (out), F7 EBI0_BA0/A16 (out), F8 EBI0_A12 (out), F9 EBI0_A6 (out), G4 EBI0_D14 (io)
part G pins: M9 EBI1_A21 (out), N7 EBI1_A6 (out), N8 EBI1_A11 (out), N9 EBI1_A22 (out), N10 EBI1_D2 (io), N11 EBI1_D6 (io), N12 EBI1_D9 (io), P7 EBI1_A8 (out), P8 EBI1_A4 (out), P9 EBI1_A19 (out), P10 EBI1_NCS0 (out), P11 EBI1_NWE/NWR0/CFWE (out), P12 EBI1_D4 (io), P13 EBI1_D10 (io), R6 EBI1_A2 (out), R7 EBI1_A14 (out), R8 EBI1_A13 (out), R9 EBI1_BA1/A17 (out), R10 EBI1_D1 (io), R11 EBI1_D8 (io), R12 EBI1_D12 (io), R13 EBI1_D15 (io), R15 EBI1_SDCK (out), T7 EBI1_A7 (out), T8 EBI1_A12 (out), T9 EBI1_A18 (out), T10 EBI1_D0 (io), T11 EBI1_D7 (io), T12 EBI1_D14 (io), U6 EBI1_NBS0/A0 (out), U7 EBI1_A5 (out), U8 EBI1_A10 (out), U9 EBI1_BA0/A16 (out), U10 EBI1_NRD/CFOE (out), U11 EBI1_D3 (io), U12 EBI1_D13 (io), V5 EBI1_NWR2/A1 (out), V6 EBI1_A3 (out), V7 EBI1_A9 (out), V8 EBI1_A15 (out), V9 EBI1_A20 (out), V10 EBI1_NBS1/NWR1/CFIOR (out), V11 EBI1_D5 (io), V12 EBI1_D11 (io)
part H pins: A16 VDDCORE (power), A17 VDDIOP0 (power), A18 DDP (io), B18 DDM (io), C16 GND (power), C17 VDDIOP0 (power), C18 HDPB (io), D3 NC, D18 HDMB (io), E18 HDPA (io), F18 HDMA (io), G8 GND (power), G9 NC, G10 GND (power), G11 GND (power), G12 GND (power), H8 VDDIOM0 (power), H9 GND (power), H10 VDDCORE (power), H11 GND (power), J9 GND (power), J10 GND (power), J11 GND (power), K9 GND (power), K10 VDDIOM0 (power), K11 GND (power), K12 VDDIOM0 (power), L8 VDDIOP1 (power), L9 VDDIOM1 (power), L10 VDDIOM0 (power), L11 VDDIOP0 (power), L12 GNDBU (power), M8 VDDBU (power), M10 VDDIOM1 (power), M11 GND (power), M12 GND (power), M13 VDDIOM1 (power), N1 NC, N2 NC, N4 NC, N13 GND (power), N14 GNDPLLA (power), N17 TMS (in), N18 TDO (out), P1 XIN32 (in), P2 SHDN (out), P4 WKUP (in), P5 JTAGSEL (in), P17 TDI (in), P18 PLLRCB (in), R1 XOUT32 (in), R2 TST (in), R17 TCK (in), R18 XOUT (in), T1 VDDOSC (power), T2 VDDIOM1 (power), T17 GNDPLLB (power), T18 XIN (in), U15 RTCK (out), U16 NTRST (in), U17 VDDPLLA (power), U18 PLLRCA (in), V1 VDDCORE (power), V15 NRST (io), V16 GND (power), V17 GND (power), V18 VDDPLLB (power)

## ATmega8-16AI
designator U?
8-Bit AVR Microcontroller with 8K Bytes of In-System Programmable Flash Memory; Package Information: Latest Revision: revB, Oct-2001; Code - JEDEC: MS-026-ABA; Published: 17-Sep-2003; Datasheet: Latest Revision: 2486H-AVR-09/02; Package Reference: 32A; Publisher: Altium Limited
footprint QFP32a (QFP; 32 Leads; Body 7 x 7 mm; Pitch 0.8 mm)
pins: 1 PD3 (INT1) (io), 2 PD4 (XCK/T0) (io), 3 GND (power), 4 VCC (power), 5 GND (power), 6 VCC (power), 7 PB6 (XTAL1/TOSC1) (io), 8 PB7 (XTAL2/TOSC2) (io), 9 PD5 (T1) (io), 10 PD6 (AIN0) (io), 11 PD7 (AIN1) (io), 12 PB0 (ICP) (io), 13 PB1 (OC1A) (io), 14 PB2 (~{SS}/OC1B) (io), 15 PB3 (MOSI/OC2) (io), 16 PB4 (MISO) (io), 17 PB5 (SCK) (io), 18 AVCC (power), 19 ADC6 (in), 20 AREF, 21 GND (power), 22 ADC7 (in), 23 PC0 (ADC0) (io), 24 PC1 (ADC1) (io), 25 PC2 (ADC2) (io), 26 PC3 (ADC3) (io), 27 PC4 (ADC4/SDA) (io), 28 PC5 (ADC5/SCL) (io), 29 PC6 (~{RESET}) (io), 30 PD0 (RXD) (io), 31 PD1 (TXD) (io), 32 PD2 (INT0) (io)

## ATMEGA64
designator U?
AVR microcontroller
footprint TQFP64
pins: 1 ~{PEN}, 2 (RXD0/PDI) PE0, 3 (TXD0/PD0) PE1, 4 (XCK0/AIN0) PE2, 5 (OC3A/AIN1) PE3, 6 (OC3B/INT4) PE4, 7 (OC3C/INT5) PE5, 8 (T3/INT6) PE6, 9 (ICP3/INT7) PE7, 10 (~{SS}) PB0, 11 (SCK) PB1, 12 (MOSI) PB2, 13 (MISO) PB3, 14 (OC0) PB4, 15 (OC1A) PB5, 16 (OC1B) PB6, 17 (OC2/OC1C) PB7, 18 TOSC2/PG3, 19 TOSC1/PG4, 20 ~{RESET}, 21 VCC, 22 GND, 23 XTAL2, 24 XTAL1, 25 (SCL/INT0) PD0, 26 (SDA/INT1) PD1, 27 (RXD1/INT2) PD2, 28 (TXD1/INT3) PD3, 29 (ICP1) PD4, 30 (XCK1) PD5, 31 (T1) PD6, 32 (T2) PD7, 33 PG0(~{WR}), 34 PG1(~{RD}), 35 PC0 (A8), 36 PC1 (A9), 37 PC2 (A10), 38 PC3 (A11), 39 PC4 (A12), 40 PC5 (A13), 41 PC6 (A14), 42 PC7 (A15), 43 PG2 (ALE), 44 PA7 (AD7), 45 PA6 (AD6), 46 PA5 (AD5), 47 PA4 (AD4), 48 PA3 (AD3), 49 PA2 (AD2), 50 PA1 (AD1), 51 PA0 (AD0), 52 VCC, 53 GND, 54 PF7 (ADC7/TDI), 55 PF6 (ADC6/TDO), 56 PF5 (ADC5/TMS), 57 PF4 (ADC4/TCK), 58 PF3 (ADC3), 59 PF2 (ADC2), 60 PF1 (ADC1), 61 PF0 (ADC0), 62 AREF, 63 GND, 64 AVCC
2 alternate drawings of the same symbol

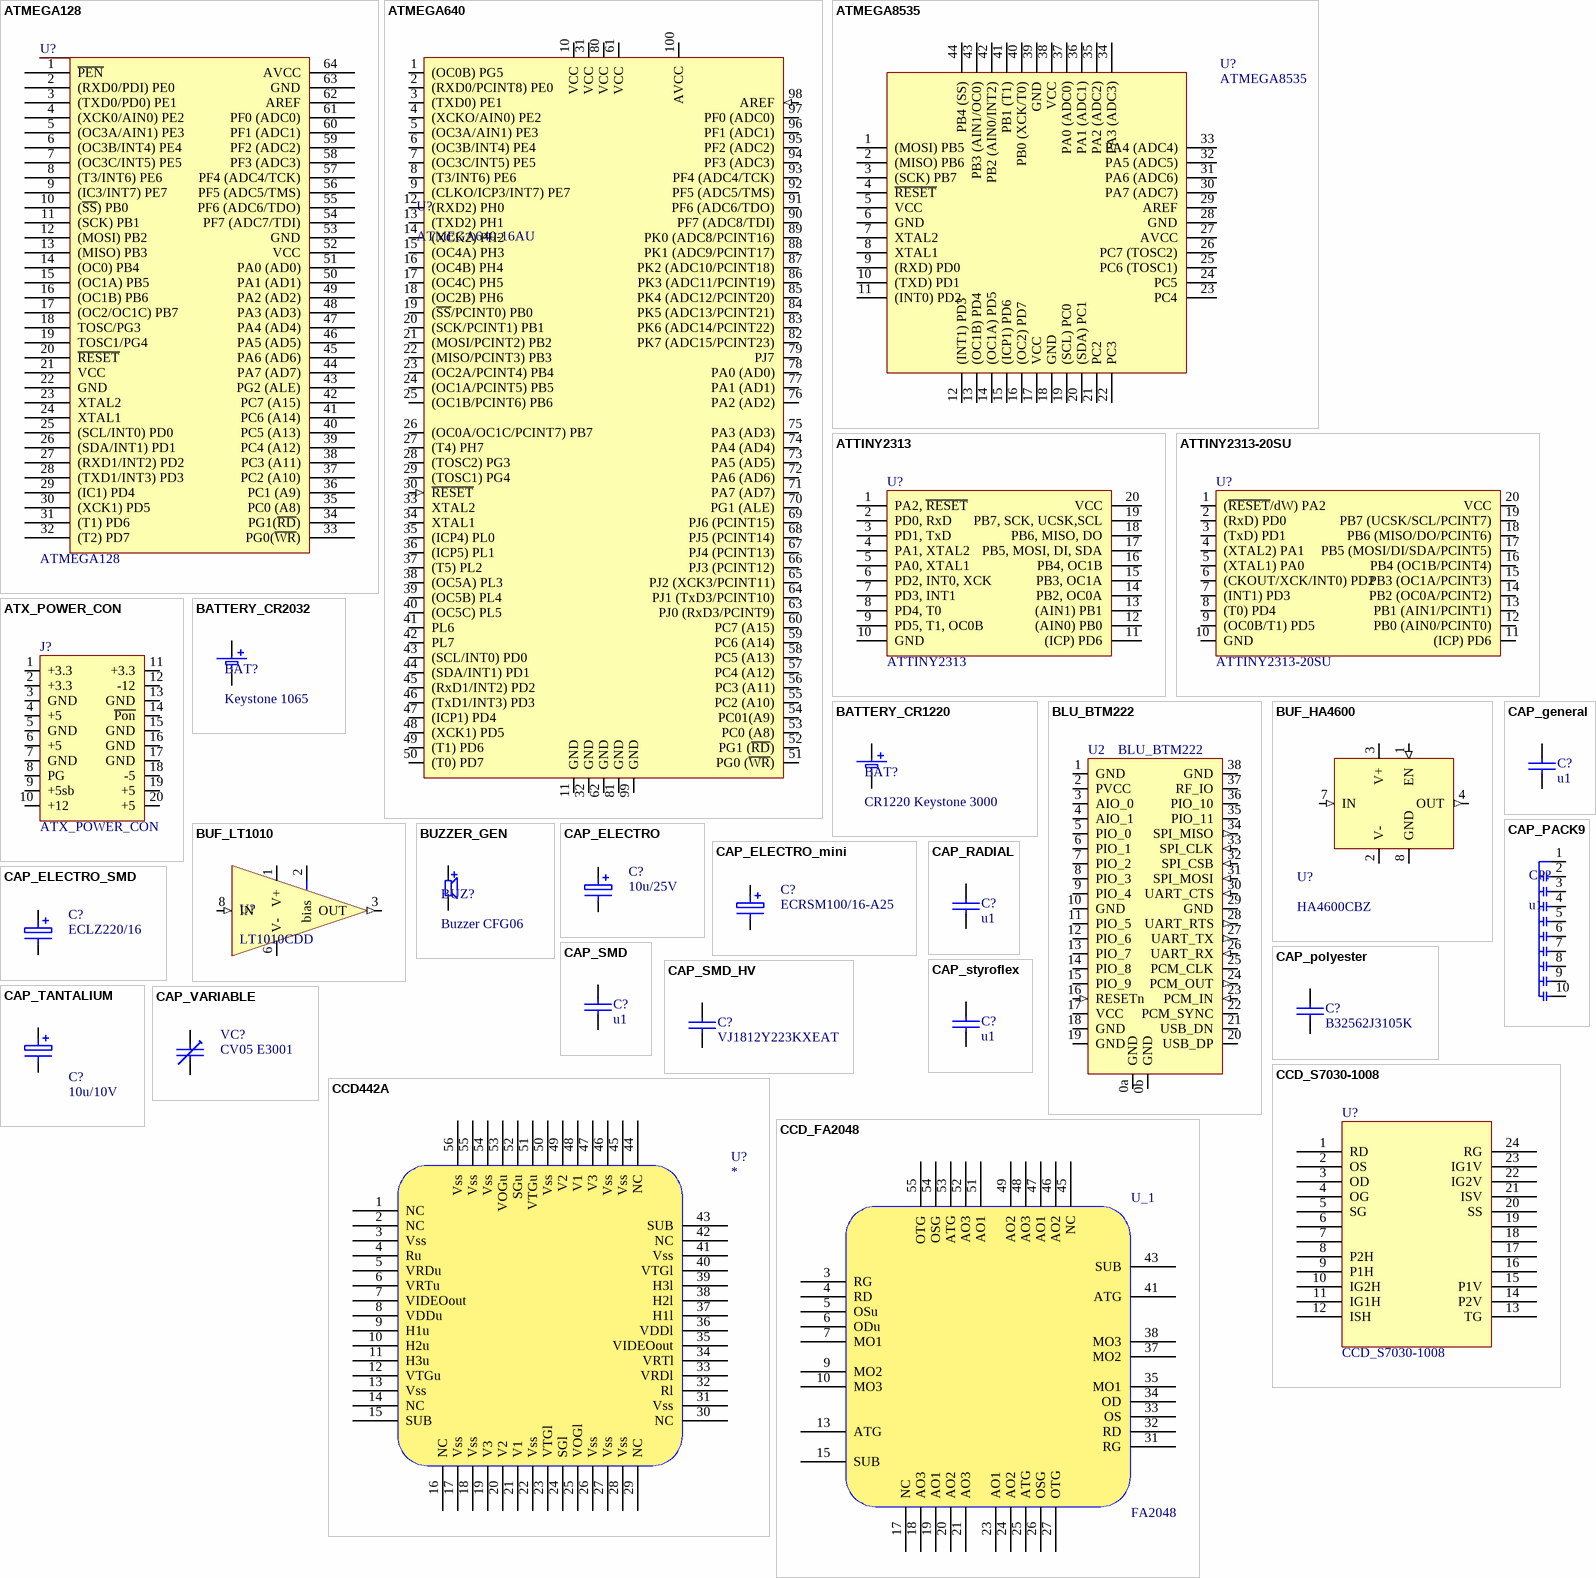
[diagram p11: symbols ATMEGA128 to CCD_S7030-1008]

## ATMEGA128
designator U?
AVR microcontroller
footprint TQFP64
pins: 1 ~{PEN}, 2 (RXD0/PDI) PE0, 3 (TXD0/PD0) PE1, 4 (XCK0/AIN0) PE2, 5 (OC3A/AIN1) PE3, 6 (OC3B/INT4) PE4, 7 (OC3C/INT5) PE5, 8 (T3/INT6) PE6, 9 (IC3/INT7) PE7, 10 (~{SS}) PB0, 11 (SCK) PB1, 12 (MOSI) PB2, 13 (MISO) PB3, 14 (OC0) PB4, 15 (OC1A) PB5, 16 (OC1B) PB6, 17 (OC2/OC1C) PB7, 18 TOSC/PG3, 19 TOSC1/PG4, 20 ~{RESET}, 21 VCC, 22 GND, 23 XTAL2, 24 XTAL1, 25 (SCL/INT0) PD0, 26 (SDA/INT1) PD1, 27 (RXD1/INT2) PD2, 28 (TXD1/INT3) PD3, 29 (IC1) PD4, 30 (XCK1) PD5, 31 (T1) PD6, 32 (T2) PD7, 33 PG0(~{WR}), 34 PG1(~{RD}), 35 PC0 (A8), 36 PC1 (A9), 37 PC2 (A10), 38 PC3 (A11), 39 PC4 (A12), 40 PC5 (A13), 41 PC6 (A14), 42 PC7 (A15), 43 PG2 (ALE), 44 PA7 (AD7), 45 PA6 (AD6), 46 PA5 (AD5), 47 PA4 (AD4), 48 PA3 (AD3), 49 PA2 (AD2), 50 PA1 (AD1), 51 PA0 (AD0), 52 VCC, 53 GND, 54 PF7 (ADC7/TDI), 55 PF6 (ADC6/TDO), 56 PF5 (ADC5/TMS), 57 PF4 (ADC4/TCK), 58 PF3 (ADC3), 59 PF2 (ADC2), 60 PF1 (ADC1), 61 PF0 (ADC0), 62 AREF, 63 GND, 64 AVCC
2 alternate drawings of the same symbol

## ATMEGA640
designator U?, comment ATMEGA640-16AU
8 bit AVR microcontroller
footprint TQFP100
pins: 1 (OC0B) PG5 (io), 2 (RXD0/PCINT8) PE0 (io), 3 (TXD0) PE1 (io), 4 (XCKO/AIN0) PE2 (io), 5 (OC3A/AIN1) PE3 (io), 6 (OC3B/INT4) PE4 (io), 7 (OC3C/INT5) PE5 (io), 8 (T3/INT6) PE6 (io), 9 (CLKO/ICP3/INT7) PE7 (io), 10 VCC (power), 11 GND (power), 12 (RXD2) PH0 (io), 13 (TXD2) PH1 (io), 14 (XCK2) PH2 (io), 15 (OC4A) PH3 (io), 16 (OC4B) PH4 (io), 17 (OC4C) PH5 (io), 18 (OC2B) PH6 (io), 19 (~{SS}/PCINT0) PB0 (io), 20 (SCK/PCINT1) PB1 (io), 21 (MOSI/PCINT2) PB2 (io), 22 (MISO/PCINT3) PB3 (io), 23 (OC2A/PCINT4) PB4 (io), 24 (OC1A/PCINT5) PB5 (io), 25 (OC1B/PCINT6) PB6 (io), 26 (OC0A/OC1C/PCINT7) PB7 (io), 27 (T4) PH7 (io), 28 (TOSC2) PG3 (io), 29 (TOSC1) PG4 (io), 30 ~{RESET} (in), 31 VCC (power), 32 GND (power), 33 XTAL2, 34 XTAL1, 35 (ICP4) PL0 (io), 36 (ICP5) PL1 (io), 37 (T5) PL2 (io), 38 (OC5A) PL3 (io), 39 (OC5B) PL4 (io), 40 (OC5C) PL5 (io), 41 PL6 (io), 42 PL7 (io), 43 (SCL/INT0) PD0 (io), 44 (SDA/INT1) PD1 (io), 45 (RxD1/INT2) PD2 (io), 46 (TxD1/INT3) PD3 (io), 47 (ICP1) PD4 (io), 48 (XCK1) PD5 (io), 49 (T1) PD6 (io), 50 (T0) PD7 (io), 51 PG0 (~{WR}) (io), 52 PG1 (~{RD}) (io), 53 PC0 (A8) (io), 54 PC01(A9) (io), 55 PC2 (A10) (io), 56 PC3 (A11) (io), 57 PC4 (A12) (io), 58 PC5 (A13) (io), 59 PC6 (A14) (io), 60 PC7 (A15) (io), 61 VCC (power), 62 GND (power), 63 PJ0 (RxD3/PCINT9) (io), 64 PJ1 (TxD3/PCINT10) (io), 65 PJ2 (XCK3/PCINT11) (io), 66 PJ3 (PCINT12) (io), 67 PJ4 (PCINT13) (io), 68 PJ5 (PCINT14) (io), 69 PJ6 (PCINT15) (io), 70 PG1 (ALE) (io), 71 PA7 (AD7) (io), 72 PA6 (AD6) (io), 73 PA5 (AD5) (io), 74 PA4 (AD4) (io), 75 PA3 (AD3) (io), 76 PA2 (AD2) (io), 77 PA1 (AD1) (io), 78 PA0 (AD0) (io), 79 PJ7 (io), 80 VCC (power), 81 GND (power), 82 PK7 (ADC15/PCINT23) (io), 83 PK6 (ADC14/PCINT22) (io), 84 PK5 (ADC13/PCINT21) (io), 85 PK4 (ADC12/PCINT20) (io), 86 PK3 (ADC11/PCINT19) (io), 87 PK2 (ADC10/PCINT18) (io), 88 PK1 (ADC9/PCINT17) (io), 89 PK0 (ADC8/PCINT16) (io), 90 PF7 (ADC8/TDI) (io), 91 PF6 (ADC6/TDO) (io), 92 PF5 (ADC5/TMS) (io), 93 PF4 (ADC4/TCK) (io), 94 PF3 (ADC3) (io), 95 PF2 (ADC2) (io), 96 PF1 (ADC1) (io), 97 PF0 (ADC0) (power), 98 AREF (in), 99 GND (power), 100 AVCC (power)

## ATMEGA8535
designator U?
AVR microcontroller
footprint TQFP44
pins: 1 (MOSI) PB5, 2 (MISO) PB6, 3 (SCK) PB7, 4 ~{RESET}, 5 VCC, 6 GND, 7 XTAL2, 8 XTAL1, 9 (RXD) PD0, 10 (TXD) PD1, 11 (INT0) PD2, 12 (INT1) PD3, 13 (OC1B) PD4, 14 (OC1A) PD5, 15 (ICP1) PD6, 16 (OC2) PD7, 17 VCC, 18 GND, 19 (SCL) PC0, 20 (SDA) PC1, 21 PC2, 22 PC3, 23 PC4, 24 PC5, 25 PC6 (TOSC1), 26 PC7 (TOSC2), 27 AVCC, 28 GND, 29 AREF, 30 PA7 (ADC7), 31 PA6 (ADC6), 32 PA5 (ADC5), 33 PA4 (ADC4), 34 PA3 (ADC3), 35 PA2 (ADC2), 36 PA1 (ADC1), 37 PA0 (ADC0), 38 VCC, 39 GND, 40 PB0 (XCK/T0), 41 PB1 (T1), 42 PB2 (AIN0/INT2), 43 PB3 (AIN1/OC0), 44 PB4 (SS)
2 alternate drawings of the same symbol

## ATTINY2313
designator U?
AVR microcontroller
footprint DIP-20
footprint SOL-20
pins: 1 PA2, ~{RESET}, 2 PD0, RxD, 3 PD1, TxD, 4 PA1, XTAL2, 5 PA0, XTAL1, 6 PD2, INT0, XCK, 7 PD3, INT1, 8 PD4, T0, 9 PD5, T1, OC0B, 10 GND, 11 (ICP) PD6, 12 (AIN0) PB0, 13 (AIN1) PB1, 14 PB2, OC0A, 15 PB3, OC1A, 16 PB4, OC1B, 17 PB5, MOSI, DI, SDA, 18 PB6, MISO, DO, 19 PB7, SCK, UCSK,SCL, 20 VCC
2 alternate drawings of the same symbol

## ATTINY2313-20SU
designator U?
AVR microcontroller
footprint DIP-20
footprint SOL-20
pins: 1 (~{RESET}/dW) PA2 (io), 2 (RxD) PD0 (io), 3 (TxD) PD1 (io), 4 (XTAL2) PA1 (io), 5 (XTAL1) PA0 (io), 6 (CKOUT/XCK/INT0) PD2 (io), 7 (INT1) PD3 (io), 8 (T0) PD4 (io), 9 (OC0B/T1) PD5 (io), 10 GND (power), 11 (ICP) PD6 (io), 12 PB0 (AIN0/PCINT0) (io), 13 PB1 (AIN1/PCINT1) (io), 14 PB2 (OC0A/PCINT2) (io), 15 PB3 (OC1A/PCINT3) (io), 16 PB4 (OC1B/PCINT4) (io), 17 PB5 (MOSI/DI/SDA/PCINT5) (io), 18 PB6 (MISO/DO/PCINT6) (io), 19 PB7 (UCSK/SCL/PCINT7) (io), 20 VCC (power)
2 alternate drawings of the same symbol

## ATX_POWER_CON
designator J?
ATX standard power connector male
footprint ATX_POWER_CON
pins: 1 +3.3, 2 +3.3, 3 GND, 4 +5, 5 GND, 6 +5, 7 GND, 8 PG, 9 +5sb, 10 +12, 11 +3.3, 12 -12, 13 GND, 14 ~{Pon}, 15 GND, 16 GND, 17 GND, 18 -5, 19 +5, 20 +5
2 alternate drawings of the same symbol

## BATTERY_CR1220
designator BAT?, comment CR1220 Keystone 3000
CR-2032 Battery 3V 220mAh (Farnell: 1339840)
footprint bat_socket_SC2032SN (CR2032SN battery socket Maritex)
footprint bat_socket_SC2032BE (CR2032BE battery socket Maritex)
footprint CR1220_Keystone_3000
pins: neg + (power), pos1 + (power), pos2 + (power)

## BATTERY_CR2032
designator BAT?, comment Keystone 1065
CR-2032 Battery 3V 220mAh (Farnell: 1339840)
footprint bat_socket_SC2032SN (CR2032SN battery socket Maritex)
footprint bat_socket_SC2032BE (CR2032BE battery socket Maritex)
footprint bat_CR2032_VERTICAL_SOCKET (Footprint not found)
pins: NEG + (power), POS + (power)

## BLU_BTM222
designator U2
Rayson Class1 BC04-ext Module (Maritex, TME)
footprint BLU_BTM222
pins: 0a GND (power), 0b GND (power), 1 GND (power), 2 PVCC (power), 3 AIO_0 (io), 4 AIO_1 (io), 5 PIO_0 (io), 6 PIO_1 (io), 7 PIO_2 (io), 8 PIO_3 (io), 9 PIO_4 (io), 10 GND (power), 11 PIO_5 (io), 12 PIO_6 (io), 13 PIO_7 (io), 14 PIO_8 (io), 15 PIO_9 (io), 16 RESETn (in), 17 VCC (power), 18 GND (power), 19 GND (power), 20 USB_DP (io), 21 USB_DN (io), 22 PCM_SYNC (io), 23 PCM_IN (in), 24 PCM_OUT (out), 25 PCM_CLK (io), 26 UART_RX (in), 27 UART_TX (out), 28 UART_RTS (out), 29 GND (power), 30 UART_CTS (in), 31 SPI_MOSI (in), 32 SPI_CSB (in), 33 SPI_CLK (in), 34 SPI_MISO (out), 35 PIO_11 (io), 36 PIO_10 (io), 37 RF_IO, 38 GND (power)

## BUF_HA4600
designator U?, comment HA4600CBZ
BUFFER, VIDEO, 480MHZ
footprint SO-8
pins: 1 EN (in), 2 V- (power), 3 V+ (power), 4 OUT (out), 7 IN (in), 8 GND (power)

## BUF_LT1010
designator U?, comment LT1010CDD
Fast ±150mA Power Buffer
footprint DFN8
pins: 1 V+ (power), 2 bias    (power), 3 OUT    (out), 6 V- (power), 8 IN (in)

## BUZZER_GEN
designator BUZ?, comment Buzzer CFG06
Buzzer (Maritex)
footprint buzzer_cfg_06 (piezo with generator)
footprint buzzer_cfgp_12 (piezo with generator)
pins: NEG - (power), POS + (power)

## CAP_ELECTRO
designator C?, comment 10u/25V
Electrolytic Capacitor
footprint RB.1/.2
footprint RB.2/.4
footprint RB.3/.6
footprint 2917
pins: 1, 2
2 alternate drawings of the same symbol

## CAP_ELECTRO_mini
designator C?, comment ECRSM100/16-A25
Miniature Electrolytic Capacitor (maritex)
footprint CAP_MHR-3
footprint CAP_MHR-4
footprint CAP_MHR-4
footprint CAP_MHR-5
footprint CAP_MHR-6.3 (m1/6.3,m1/10,47/10,33-47-100/16,22-33-47/25,22-33/35,10-22/50,10/63)
footprint CAP_MHR-8 (m22-33-47/6.3,m22-33-47/10,m22-3/16,m1/25,47/35,33/50,47/50,)
pins: 1, 2
2 alternate drawings of the same symbol

## CAP_ELECTRO_SMD
designator C?, comment ECLZ220/16
Electrolytic Capacitor
footprint CAP_SMT_EL_4mm_B
footprint CAP_SMT_EL_5mm_C
footprint CAP_SMT_EL_6.3mm_D
footprint CAP_SMT_EL_8mm_E
footprint CAP_SMT_EL_8mm_F
footprint CAP_SMT_EL_10mm_G
pins: 1, 2
2 alternate drawings of the same symbol

## CAP_general
designator C?, comment u1
Capacitor
footprint cap_ceram
footprint 1206
footprint 0805
footprint 0603
pins: 1, 2
2 alternate drawings of the same symbol

## CAP_PACK9
designator CP?, comment u1
4610M-901-104LF(Farnell)
footprint SIL-10
pins: 1, 2, 3, 4, 5, 6, 7, 8, 9, 10

## CAP_polyester
designator C?, comment B32562J3105K
Capacitor
footprint cap_MKT_B3256x
footprint CAP_POLY_10mm
pins: 1, 2
2 alternate drawings of the same symbol

## CAP_RADIAL
designator C?, comment u1
Capacitor
footprint RAD0.2
footprint RAD0.4
footprint RAD0.9
footprint RAD1.0
footprint CerCap
footprint CAP_radial_V8mm
footprint CerCapHV_7.5mm
pins: 1, 2
2 alternate drawings of the same symbol

## CAP_SMD
designator C?, comment u1
Capacitor SMD
footprint 0805
footprint 1206
footprint 0603
pins: 1, 2
2 alternate drawings of the same symbol

## CAP_SMD_HV
designator C?, comment VJ1812Y223KXEAT
Capacitor SMD
footprint 1206
footprint 1812
footprint 1808 (smd)
pins: 1, 2
2 alternate drawings of the same symbol

## CAP_styroflex
designator C?, comment u1
Capacitor
footprint WIMA_1u
footprint WIMA_u47
footprint WIMA_U33
footprint WIMA_U22
footprint WIMA_u1
pins: 1, 2
2 alternate drawings of the same symbol

## CAP_TANTALIUM
designator C?, comment 10u/10V
Tantalium Capacitor
footprint 1307_SMDA
footprint 1411_SMDB
footprint 2313_SMDC
footprint 2917_SMDD
pins: 1, 2
2 alternate drawings of the same symbol

## CAP_VARIABLE
designator VC?, comment CV05 E3001
variable capacitor MULTICOMP (Farnell)
footprint CAP_VAR_CV05
pins: 1, 2
2 alternate drawings of the same symbol

## CCD442A
designator U?
CCD sensor
footprint PGA56_CCD
pins: 1 NC, 2 NC, 3 Vss, 4 Ru, 5 VRDu, 6 VRTu, 7 VIDEOout, 8 VDDu, 9 H1u, 10 H2u, 11 H3u, 12 VTGu, 13 Vss, 14 NC, 15 SUB, 16 NC, 17 Vss, 18 Vss, 19 V3, 20 V2, 21 V1, 22 Vss, 23 VTGl, 24 SGl, 25 VOGl, 26 Vss, 27 Vss, 28 Vss, 29 NC, 30 NC, 31 Vss, 32 Rl, 33 VRDl, 34 VRTl, 35 VIDEOout, 36 VDDl, 37 H1l, 38 H2l, 39 H3l, 40 VTGl, 41 Vss, 42 NC, 43 SUB, 44 NC, 45 Vss, 46 Vss, 47 V3, 48 V1, 49 V2, 50 Vss, 51 VTGu, 52 SGu, 53 VOGu, 54 Vss, 55 Vss, 56 Vss
2 alternate drawings of the same symbol

## CCD_FA2048
designator U_1, comment FA2048
footprint BGA56_CCD
pins: 3 RG, 4 RD, 5 OSu, 6 ODu, 7 MO1, 9 MO2, 10 MO3, 13 ATG, 15 SUB, 17 NC, 18 AO3, 19 AO1, 20 AO2, 21 AO3, 23 AO1, 24 AO2, 25 ATG, 26 OSG, 27 OTG, 31 RG, 32 RD, 33 OS, 34 OD, 35 MO1, 37 MO2, 38 MO3, 41 ATG, 43 SUB, 45 NC, 46 AO2, 47 AO1, 48 AO3, 49 AO2, 51 AO1, 52 AO3, 53 ATG, 54 OSG, 55 OTG

## CCD_S7030-1008
designator U?
Hamamatsu CCD sensor
footprint S7030
pins: 1 RD, 2 OS, 3 OD, 4 OG, 5 SG, 6  , 7  , 8 P2H, 9 P1H, 10 IG2H, 11 IG1H, 12 ISH, 13 TG, 14 P2V, 15 P1V, 16  , 17  , 18  , 19  , 20 SS, 21 ISV, 22 IG2V, 23 IG1V, 24 RG
2 alternate drawings of the same symbol

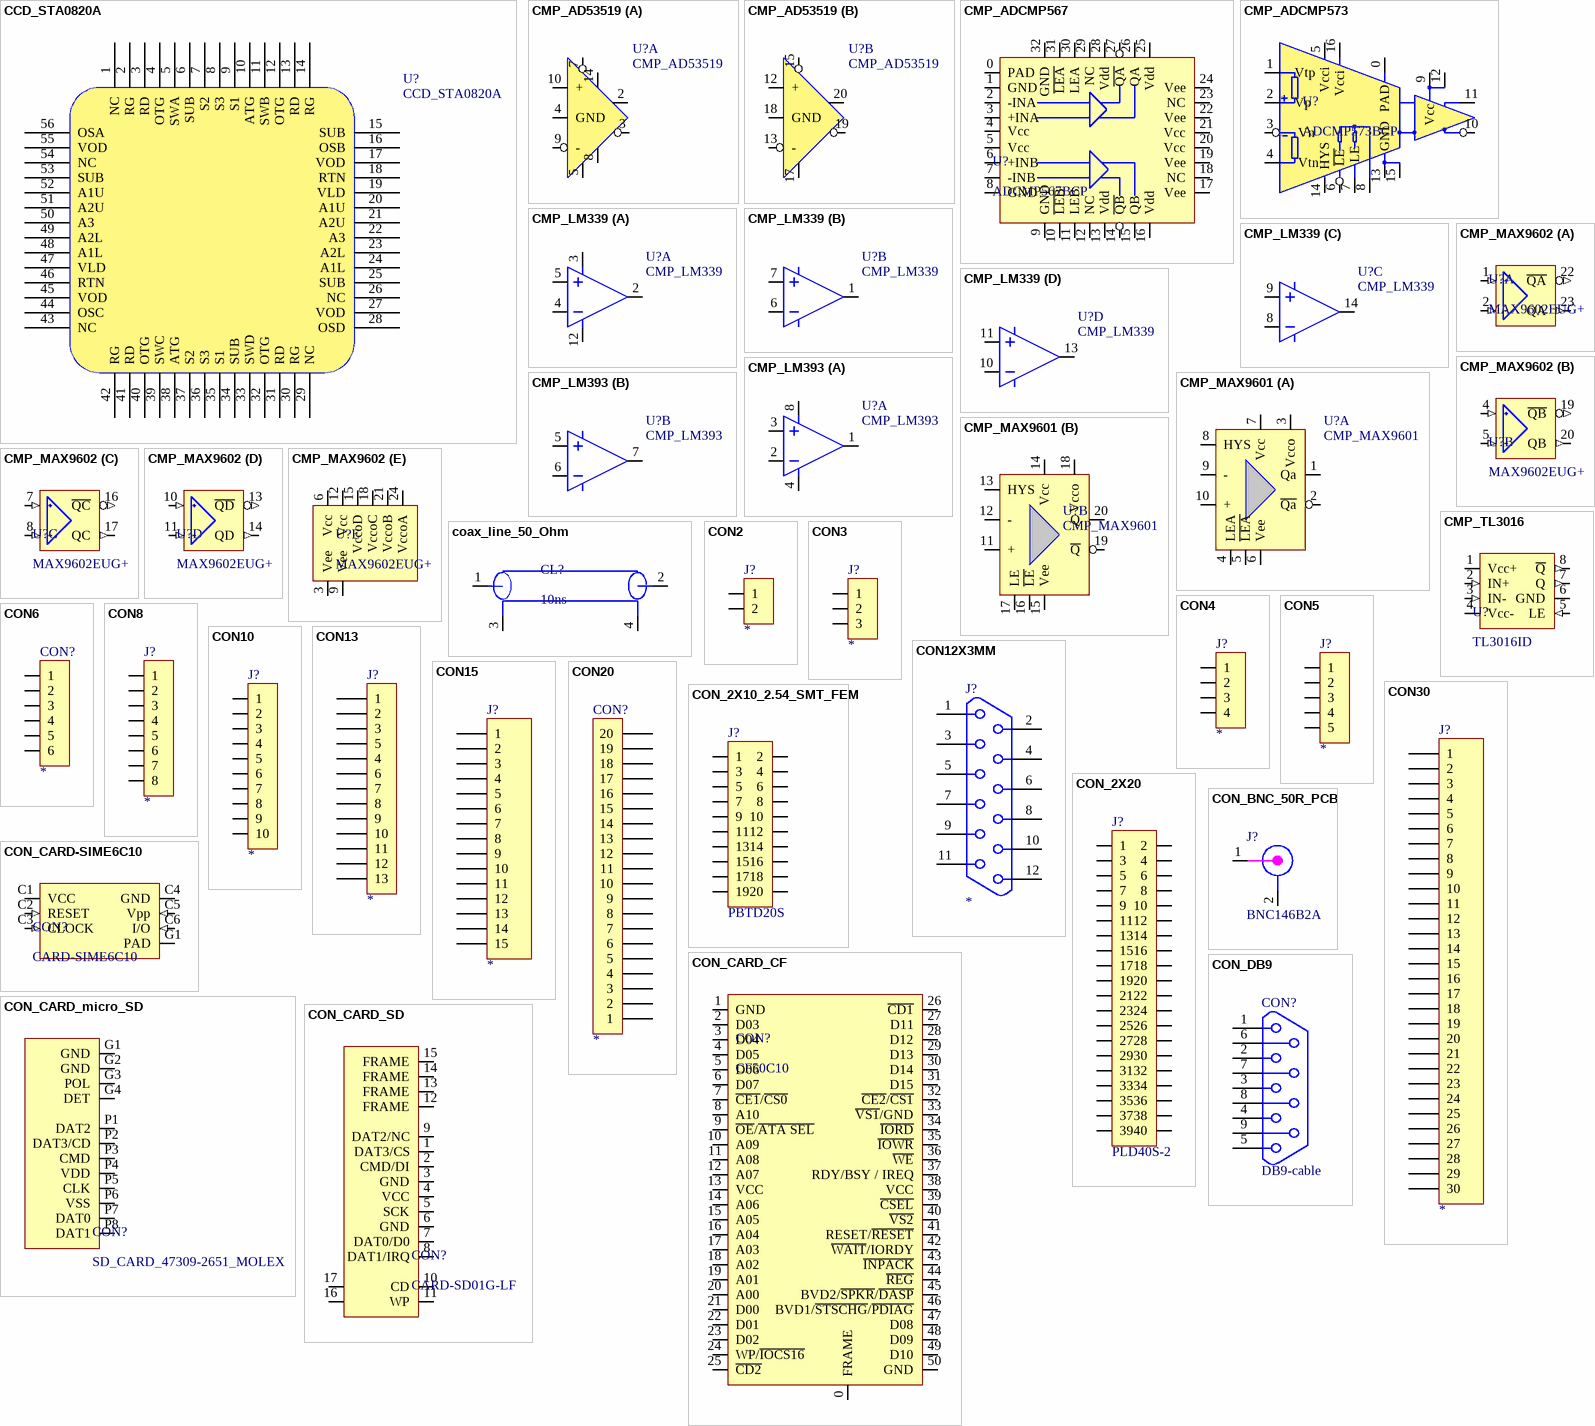
[diagram p12: symbols CCD_STA0820A to CON_DB9]

## CCD_STA0820A
designator U?
CCD Sensor
footprint STA0820A
pins: 1 NC, 2 RG, 3 RD, 4 OTG, 5 SWA, 6 SUB, 7 S2, 8 S3, 9 S1, 10 ATG, 11 SWB, 12 OTG, 13 RD, 14 RG, 15 SUB, 16 OSB, 17 VOD, 18 RTN, 19 VLD, 20 A1U, 21 A2U, 22 A3, 23 A2L, 24 A1L, 25 SUB, 26 NC, 27 VOD, 28 OSD, 29 NC, 30 RG, 31 RD, 32 OTG, 33 SWD, 34 SUB, 35 S1, 36 S3, 37 S2, 38 ATG, 39 SWC, 40 OTG, 41 RD, 42 RG, 43 NC, 44 OSC, 45 VOD, 46 RTN, 47 VLD, 48 A1L, 49 A2L, 50 A3, 51 A2U, 52 A1U, 53 SUB, 54 NC, 55 VOD, 56 OSA
2 alternate drawings of the same symbol

## CMP_AD53519
designator U?
fast comparator
footprint PLCC20
part A pins: 2, 3, 4 GND, 5, 7, 8, 9 -, 10 +, 14
part B pins: 12 +, 13 -, 15, 17, 18 GND, 19, 20
2 alternate drawings of the same symbol

## CMP_ADCMP567
designator U?, comment ADCMP567BCP
dual 250ps PECL comparator
footprint CP-32
pins: 0 PAD (power), 1 GND (power), 2 -INA (power), 3 +INA (power), 4 Vcc (power), 5 Vcc (power), 6 +INB (power), 7 -INB (power), 8 GND (power), 9 GND (power), 10 ~{LEB} (power), 11 LEB (power), 12 NC (power), 13 Vdd (power), 14 ~{QB} (power), 15 QB (power), 16 Vdd (power), 17 Vee (power), 18 NC (power), 19 Vee (power), 20 Vcc (power), 21 Vcc (power), 22 Vee (power), 23 NC (power), 24 Vee (power), 25 Vdd (power), 26 QA (power), 27 ~{QA} (power), 28 Vdd (power), 29 NC (power), 30 LEA (power), 31 ~{LEA} (power), 32 GND (power)

## CMP_ADCMP573
designator U?, comment ADCMP573BCP
footprint CP-16-3
pins: 0 PAD  (power), 1   Vtp (power), 2   Vp (power), 3    Vn (power), 4    Vtn (power), 5 Vcci (power), 6  ~{LE} (power), 7   LE (power), 8     Vco/Vtt (power), 9     Vcc   (power), 10 ~{Q} (power), 11 Q (power), 12     Vcc   (power), 13  GND (power), 14 HYS (power), 15 GND (power), 16 Vcci  (power)

## CMP_LM339
designator U?
footprint DIP-14
footprint so-14
part A pins: 2, 3, 4, 5, 12
part B pins: 1, 6, 7
part C pins: 8, 9, 14
part D pins: 10, 11, 13
2 alternate drawings of the same symbol

## CMP_LM393
designator U?
Dual comparator
footprint SO-8
footprint DIP-8
part A pins: 1, 2, 3, 4, 8
part B pins: 5, 6, 7
2 alternate drawings of the same symbol

## CMP_MAX9601
designator U?
footprint TSSOP20
part A pins: 1 Qa, 2 ~{Qa}, 3 Vcco, 4 LEA, 5 ~{LEA}, 6 Vee, 7 Vcc, 8 HYS, 9 -, 10 +
part B pins: 11 +, 12 -, 13 HYS, 14 Vcc, 15 Vee, 16 ~{LE}, 17 LE, 18 Vcco, 19 ~{Q}, 20 Q
2 alternate drawings of the same symbol

## CMP_MAX9602
designator U?, comment MAX9602EUG+
Quad PECL, 500ps,  Ultra-High-Speed Comparators
footprint TSSOP24
part A pins: 1 + (in), 2 - (in), 22 ~{QA} (out), 23 QA (out)
part B pins: 4 + (in), 5 - (in), 19 ~{QB} (out), 20 QB (out)
part C pins: 7 + (in), 8 - (in), 16 ~{QC} (out), 17 QC (out)
part D pins: 10 + (in), 11 - (in), 13 ~{QD} (out), 14 QD (out)
part E pins: 3 Vee (power), 6 Vcc (power), 9 Vee (power), 12 Vcc (power), 15 VccoD (power), 18 VccoC (power), 21 VccoB (power), 24 VccoA (power)

## CMP_TL3016
designator U?, comment TL3016ID
ULTRA-FAST LOW-POWER PRECISION COMPARATORS (Farnell)
footprint SO-8
pins: 1 Vcc+ (power), 2 IN+ (in), 3 IN- (in), 4 Vcc- (power), 5 LE (in), 6 GND (power), 7 Q (out), 8 ~{Q} (out)

## coax_line_50_Ohm
designator CL?, comment 10ns
footprint coax_line_H_50_Ohm
footprint coax_line_V_50_Ohm
pins: 1, 2, 3, 4

## CON2
designator J?
Connector
footprint SIP2POW
footprint jump
footprint SCREW2
footprint tb7502s (2x terminal blocks 7.5mm 16A (Maritex))
footprint tb5002s (2x terminal block (16A,250V) 5mm (maritex))
pins: 1, 2
2 alternate drawings of the same symbol

## CON3
designator J?
Connector
footprint SIP3POW
footprint SIP3
footprint tb7503s (3x terminal block 7.55mm 16A (Maritex))
footprint tb5003s (3x terminal block (16A,250V) 5mm (maritex))
pins: 1, 2, 3
2 alternate drawings of the same symbol

## CON4
designator J?
Connector
footprint SIP4
footprint SIP_4_POW_AT
footprint SIP4POW
footprint DUAL_TB7502 (4x terminal blocks 7.5mm 16A (Maritex))
footprint Dual_TB5002S (4x terminal block (16A,250V) 5mm (maritex))
pins: 1, 2, 3, 4
2 alternate drawings of the same symbol

## CON5
designator J?
2.54mm connector
footprint SIP5
pins: 1, 2, 3, 4, 5
2 alternate drawings of the same symbol

## CON6
designator CON?
footprint SIP6
pins: 1, 2, 3, 4, 5, 6
2 alternate drawings of the same symbol

## CON8
designator J?
Connector
footprint SIP8
pins: 1, 2, 3, 4, 5, 6, 7, 8
2 alternate drawings of the same symbol

## CON10
designator J?
footprint SIP10
pins: 1, 2, 3, 4, 5, 6, 7, 8, 9, 10
2 alternate drawings of the same symbol

## CON12X3MM
designator J?
footprint DB-15/M
pins: 1, 2, 3, 4, 5, 6, 7, 8, 9, 10, 11, 12
2 alternate drawings of the same symbol

## CON13
designator J?
footprint SIP13
pins: 1, 2, 3, 4, 5, 6, 7, 8, 9, 10, 11, 12, 13
2 alternate drawings of the same symbol

## CON15
designator J?
Connector 2.54mm
footprint SIP15
pins: 1, 2, 3, 4, 5, 6, 7, 8, 9, 10, 11, 12, 13, 14, 15
2 alternate drawings of the same symbol

## CON20
designator CON?
2.54mm connector
footprint SIP20
pins: 1, 2, 3, 4, 5, 6, 7, 8, 9, 10, 11, 12, 13, 14, 15, 16, 17, 18, 19, 20
2 alternate drawings of the same symbol

## CON30
designator J?
Connector
footprint SIP30
pins: 1, 2, 3, 4, 5, 6, 7, 8, 9, 10, 11, 12, 13, 14, 15, 16, 17, 18, 19, 20, 21, 22, 23, 24, 25, 26, 27, 28, 29, 30
2 alternate drawings of the same symbol

## CON_2X10_2.54_SMT_FEM
designator J?, comment PBTD20S
2.54mm pitch connector
footprint PBTD20S (SMT 2.54 female header  (Maritex))
footprint PBTD20S_MIRRORED (SMT 2.54 female header  (Maritex))
pins: 1, 2, 3, 4, 5, 6, 7, 8, 9, 10, 11, 12, 13, 14, 15, 16, 17, 18, 19, 20
2 alternate drawings of the same symbol

## CON_2X20
designator J?, comment PLD40S-2
2.54 mm dual row goldpin (Maritex)
footprint CON_2X20
pins: 1, 2, 3, 4, 5, 6, 7, 8, 9, 10, 11, 12, 13, 14, 15, 16, 17, 18, 19, 20, 21, 22, 23, 24, 25, 26, 27, 28, 29, 30, 31, 32, 33, 34, 35, 36, 37, 38, 39, 40
2 alternate drawings of the same symbol

## CON_BNC_50R_PCB
designator J?, comment BNC146B2A
right angle BNC connector (Maritex)
footprint BNC_BNC146B2A
pins: 1, 2
2 alternate drawings of the same symbol

## CON_CARD-SIME6C10
designator CON?, comment CARD-SIME6C10
Sim Card Holder (Maritex)
footprint CON_CARD-SIME6C10
pins: C1 VCC (power), C2 RESET (in), C3 CLOCK (in), C4 GND (power), C5 Vpp (in), C6 I/O (in), G1 PAD, G2 GND, G3 GND, G4 GND

## CON_CARD_CF
designator CON?, comment CF50C10
footprint CF_CON_CFE50C10 (ompactFlash Card Header, Maritex)
footprint CF_7E50 (CF conenctor Molex)
footprint CF_CON_CF50C10 (ompactFlash Card Header, Maritex)
pins: 0 FRAME, 1 GND, 2 D03, 3 D04, 4 D05, 5 D06, 6 D07, 7 ~{CE1}/~{CS0}, 8 A10, 9 ~{OE}/~{ATA SEL}, 10 A09, 11 A08, 12 A07, 13 VCC, 14 A06, 15 A05, 16 A04, 17 A03, 18 A02, 19 A01, 20 A00, 21 D00, 22 D01, 23 D02, 24 WP/~{IOCS16}, 25 ~{CD2}, 26 ~{CD1}, 27 D11, 28 D12, 29 D13, 30 D14, 31 D15, 32 ~{CE2}/~{CS1}, 33 ~{VS1}/GND, 34 ~{IORD}, 35 ~{IOWR}, 36 ~{WE}, 37 RDY/BSY / IREQ, 38 VCC, 39 ~{CSEL}, 40 ~{VS2}, 41 RESET/~{RESET}, 42 ~{WAIT}/IORDY, 43 ~{INPACK}, 44 ~{REG}, 45 BVD2/~{SPKR}/~{DASP}, 46 BVD1/~{STSCHG}/~{PDIAG}, 47 D08, 48 D09, 49 D10, 50 GND

## CON_CARD_micro_SD
designator CON?, comment SD_CARD_47309-2651_MOLEX
Secure Digital Cards socket (Farnell)
footprint SD_CARD_47309-2651_MOLEX (micro SD PCB socket)
pins: G1 GND, G2 GND, G3 POL, G4 DET, P1 DAT2, P2 DAT3/CD, P3 CMD, P4 VDD, P5 CLK, P6 VSS, P7 DAT0, P8 DAT1

## CON_CARD_SD
designator CON?, comment CARD-SD01G-LF
Secure Digital Cards socket (Maritex)
footprint SD_CARD-SD01G-LF
pins: 1 DAT3/CS, 2 CMD/DI, 3 GND, 4 VCC, 5 SCK, 6 GND, 7 DAT0/D0, 8 DAT1/IRQ, 9 DAT2/NC, 10 CD, 11 WP, 12 FRAME, 13 FRAME, 14 FRAME, 15 FRAME, 16, 17

## CON_DB9
designator CON?, comment DB9-cable
footprint DB9BSM
footprint DB9BSF
pins: 1, 2, 3, 4, 5, 6, 7, 8, 9
2 alternate drawings of the same symbol

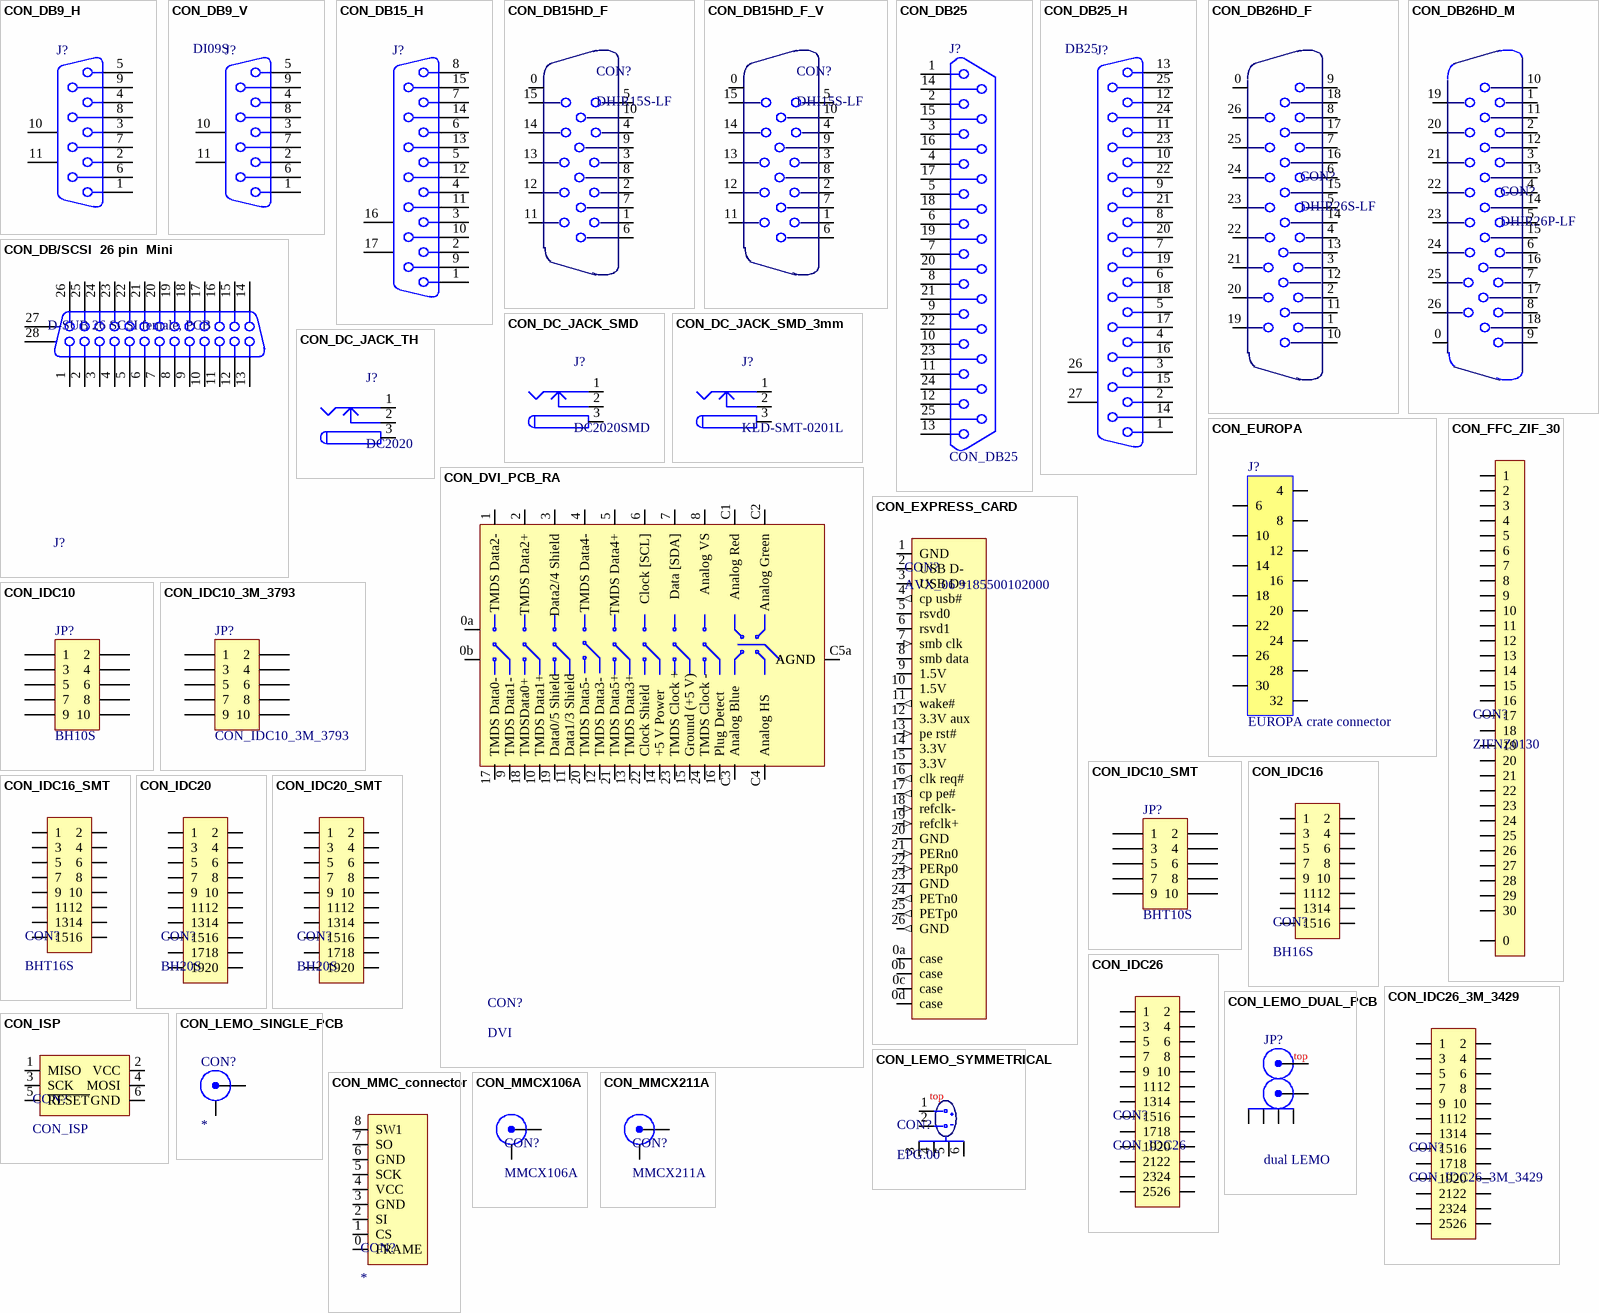
[diagram p13: symbols CON_DB9_H to CON_MMCX211A]

## CON_DB9_H
designator J?
Receptacle Assembly, 9 Position, Right Angle; Manufacturer: Generic Components; Package Information: Latest Revision: O; Class I: Connector; Positions: 9; Published: 15-Jun-2001; Revision: July-2002: Re-released for DXP Platform.; Datasheet: (1-Sep-1999); Package Reference: 788750; Publisher: Altium Limited; Orientation: Right Angle; Gender: Receptacle
footprint DB9_H_FEMALE
footprint DB9_H_FEMALE_screw
footprint DB9_H_MALE
footprint DB9_H_MALE_screw
pins: 1, 2, 3, 4, 5, 6, 7, 8, 9, 10 MH1, 11 MH2

## CON_DB9_V
designator J?, comment DI09S
9 pin DB conenctor, vertical (Maritex); Manufacturer: Generic Components; Package Information: Latest Revision: O; Class I: Connector; Positions: 9; Gender: Receptacle; Published: 15-Jun-2001; Revision: July-2002: Re-released for DXP Platform.; Datasheet: (1-Sep-1999); Package Reference: 788750; Publisher: Altium Limited; Orientation: Right Angle
footprint DB9_V_MALE_DI09S (male vertical DB9 connector (maritex))
pins: 1, 2, 3, 4, 5, 6, 7, 8, 9, 10 MH1, 11 MH2

## CON_DB15_H
designator J?
Receptacle Assembly, 15 Position, Right Angle; Manufacturer: Generic Components; Package Information: Latest Revision: O; Class I: Connector; Positions: 15; Published: 15-Jun-2001; Revision: July-2002: Re-released for DXP Platform.; Datasheet: (1-Sep-99); Package Reference: 788757; Publisher: Altium Limited; Orientation: Right Angle; Gender: Receptacle
footprint DB15_H_FEMALE_screw
footprint DB15_H_feMALE (DB15_H_FEMALE)
pins: 1, 2, 3, 4, 5, 6, 7, 8, 9, 10, 11, 12, 13, 14, 15, 16 MH1, 17 MH2

## CON_DB15HD_F
designator CON?, comment DHIR15S-LF
High Density D-SUB (Maritex)
footprint DB15_HD_F
pins: 0, 1, 2, 3, 4, 5, 6, 7, 8, 9, 10, 11, 12, 13, 14, 15

## CON_DB15HD_F_V
designator CON?, comment DHI15S-LF
High Density D-SUB (Maritex)
footprint DB15_HD_V_DHI15S-LF
pins: 0, 1, 2, 3, 4, 5, 6, 7, 8, 9, 10, 11, 12, 13, 14, 15

## CON_DB25
designator J?
footprint DB25/M
footprint DB25/F
footprint DB25BM
footprint DB25BF
pins: 1, 2, 3, 4, 5, 6, 7, 8, 9, 10, 11, 12, 13, 14, 15, 16, 17, 18, 19, 20, 21, 22, 23, 24, 25
2 alternate drawings of the same symbol

## CON_DB25_H
designator J?, comment DB25
Receptacle Assembly, 25 Position, Right Angle; Manufacturer: Generic Components; Package Information: Latest Revision: U; Class I: Connector; Positions: 25; Published: 15-Jun-2001; Revision: July-2002: Re-released for DXP Platform.; Datasheet: (19-Mar-1999); Package Reference: 787202; Publisher: Altium Limited; Orientation: Right Angle; Gender: Receptacle
footprint DB25_H_feMALE (DB25_H_FEMALE)
footprint DB25_H_feMALE_screw
footprint DB25_H_MALE
footprint DB25_H_MALE_screw
pins: 1, 2, 3, 4, 5, 6, 7, 8, 9, 10, 11, 12, 13, 14, 15, 16, 17, 18, 19, 20, 21, 22, 23, 24, 25, 26 MH1, 27 MH2

## CON_DB26HD_F
designator CON?, comment DHIR26S-LF
High Density D-SUB (Maritex)
footprint DB26_HD_F
pins: 0, 1, 2, 3, 4, 5, 6, 7, 8, 9, 10, 11, 12, 13, 14, 15, 16, 17, 18, 19, 20, 21, 22, 23, 24, 25, 26

## CON_DB26HD_M
designator CON?, comment DHIR26P-LF
High Density D-SUB (Maritex)
footprint DB26_HD_M
pins: 0, 1, 2, 3, 4, 5, 6, 7, 8, 9, 10, 11, 12, 13, 14, 15, 16, 17, 18, 19, 20, 21, 22, 23, 24, 25, 26

## CON_DB/SCSI  26 pin  Mini
designator J?, comment D-SUB 26 SCSI female, PCB
HARTING  60010265140  (RS:159-9602); PackageDocument: B; Positions: 26; Published: 15-Jun-2001; LatestRevisionDate: 17-Jul-2002; LatestRevisionNote: Re-released for DXP Platform.; DatasheetDocument: 1-Oct-1983; PackageReference: 178240-4; Publisher: Altium Limited; Orientation: Right Angle
footprint DSUB1.27-2H26A_female (Footprint not found)
pins: 1, 2, 3, 4, 5, 6, 7, 8, 9, 10, 11, 12, 13, 14, 15, 16, 17, 18, 19, 20, 21, 22, 23, 24, 25, 26, 27 MH1, 28 MH2

## CON_DC_JACK_SMD
designator J?, comment DC2020SMD
DC Power Supply Connector (maritex); Published: 17-Dec-2003; Datasheet: Latest Revision: 09-May-2002; Publisher: Altium Limited
footprint DC2020SMD
pins: 1 (power), 2 (power), 3 (power), 3a

## CON_DC_JACK_SMD_3mm
designator J?, comment KLD-SMT-0201L
DC Power Supply Connector (Elproma); Published: 17-Dec-2003; Datasheet: Latest Revision: 09-May-2002; Publisher: Altium Limited
footprint DC_KLD-SMT-0201L
pins: 1 (power), 2 (power), 3 (power), 3a

## CON_DC_JACK_TH
designator J?, comment DC2020
Low Voltage Power Supply Connector (maritex); Published: 17-Dec-2003; Datasheet: Latest Revision: 09-May-2002; Publisher: Altium Limited
signal-integrity model Connector
footprint DC2020
pins: 1 (power), 1A (power), 1B (power), 1C, 1D (power), 2 (power), 2A (power), 2B (power), 2C, 2D (power), 3 (power), 3A (power), 3B (power), 3C, 3D (power)

## CON_DVI_PCB_RA
designator CON?, comment DVI
DVi conenctor
footprint DVI_PCB_RA
pins: 0a 0, 0b 1, 1 TMDS Data2-, 2 TMDS Data2+, 3 Data2/4 Shield, 4 TMDS Data4-, 5 TMDS Data4+, 6 Clock [SCL], 7 Data [SDA], 8   Analog VS, 9 TMDS Data1-, 10 TMDS Data1+, 11 Data1/3 Shield, 12 TMDS Data3-, 13 TMDS Data3+, 14 +5 V Power, 15 Ground (+5 V), 16 Plug Detect, 17 TMDS Data0-, 18 TMDSData0+, 19 Data0/5 Shield, 20 TMDS Data5-, 21 TMDS Data5+, 22 Clock Shield, 23 TMDS Clock +, 24 TMDS Clock -, C1 Analog Red, C2 Analog Green, C3 Analog Blue, C4 Analog HS, C5a AGND, C5b AGND

## CON_EUROPA
designator J?, comment EUROPA crate connector
footprint europa_con
pins: 4, 6, 8, 10, 12, 14, 16, 18, 20, 22, 24, 26, 28, 30, 32
2 alternate drawings of the same symbol

## CON_EXPRESS_CARD
designator CON?, comment AVX_06 9185500102000
express card connector (Farnell)
footprint AVX_06 9185500102000
pins: 0a case, 0b case, 0c case, 0d case, 1 GND (power), 2 USB D- (io), 3 USB D+ (io), 4 cp usb# (out), 5 rsvd0 , 6 rsvd1, 7 smb clk (in), 8 smb data (io), 9 1.5V (power), 10 1.5V (power), 11 wake# (out), 12 3.3V aux (power), 13 pe rst# (in), 14 3.3V (power), 15 3.3V (power), 16 clk req# (out), 17 cp pe# (out), 18 refclk- (in), 19 refclk+ (in), 20 GND (power), 21 PERn0 (in), 22 PERp0 (in), 23 GND (power), 24 PETn0 (out), 25 PETp0 (out), 26 GND (out)

## CON_FFC_ZIF_30
designator CON?, comment ZIFNZ0130
FFC cable connector (maritex)
footprint ZIFNZ0330-LF
footprint ZIFNZ0130
pins: 0, 1, 2, 3, 4, 5, 6, 7, 8, 9, 10, 11, 12, 13, 14, 15, 16, 17, 18, 19, 20, 21, 22, 23, 24, 25, 26, 27, 28, 29, 30

## CON_IDC10
designator JP?, comment BH10S
IDC 2.54mm BH10S (Maritex)
footprint idc_10_male (BH10S (maritex))
pins: 1, 2, 3, 4, 5, 6, 7, 8, 9, 10
2 alternate drawings of the same symbol

## CON_IDC10_3M_3793
designator JP?
10 pin IDC 2.54mm wall mount
footprint IDC10_3M_3793
footprint IDC10_3M_3793_right_angle
pins: 1, 2, 3, 4, 5, 6, 7, 8, 9, 10
2 alternate drawings of the same symbol

## CON_IDC10_SMT
designator JP?, comment BHT10S
IDC 2.54mm BH10S (Maritex)
footprint BHT10S
pins: 1, 2, 3, 4, 5, 6, 7, 8, 9, 10
2 alternate drawings of the same symbol

## CON_IDC16
designator CON?, comment BH16S
Maritex BH16S
footprint idc16
footprint IDC_16_male (IDC 2x8 PCB male connector)
pins: 1, 2, 3, 4, 5, 6, 7, 8, 9, 10, 11, 12, 13, 14, 15, 16

## CON_IDC16_SMT
designator CON?, comment BHT16S
Maritex BH16S
footprint BHT16S (Footprint not found)
pins: 1, 2, 3, 4, 5, 6, 7, 8, 9, 10, 11, 12, 13, 14, 15, 16